# Altium integrated library Atmel Microcontroller ARM.IntLib: 148 symbols (part 11 of 11)
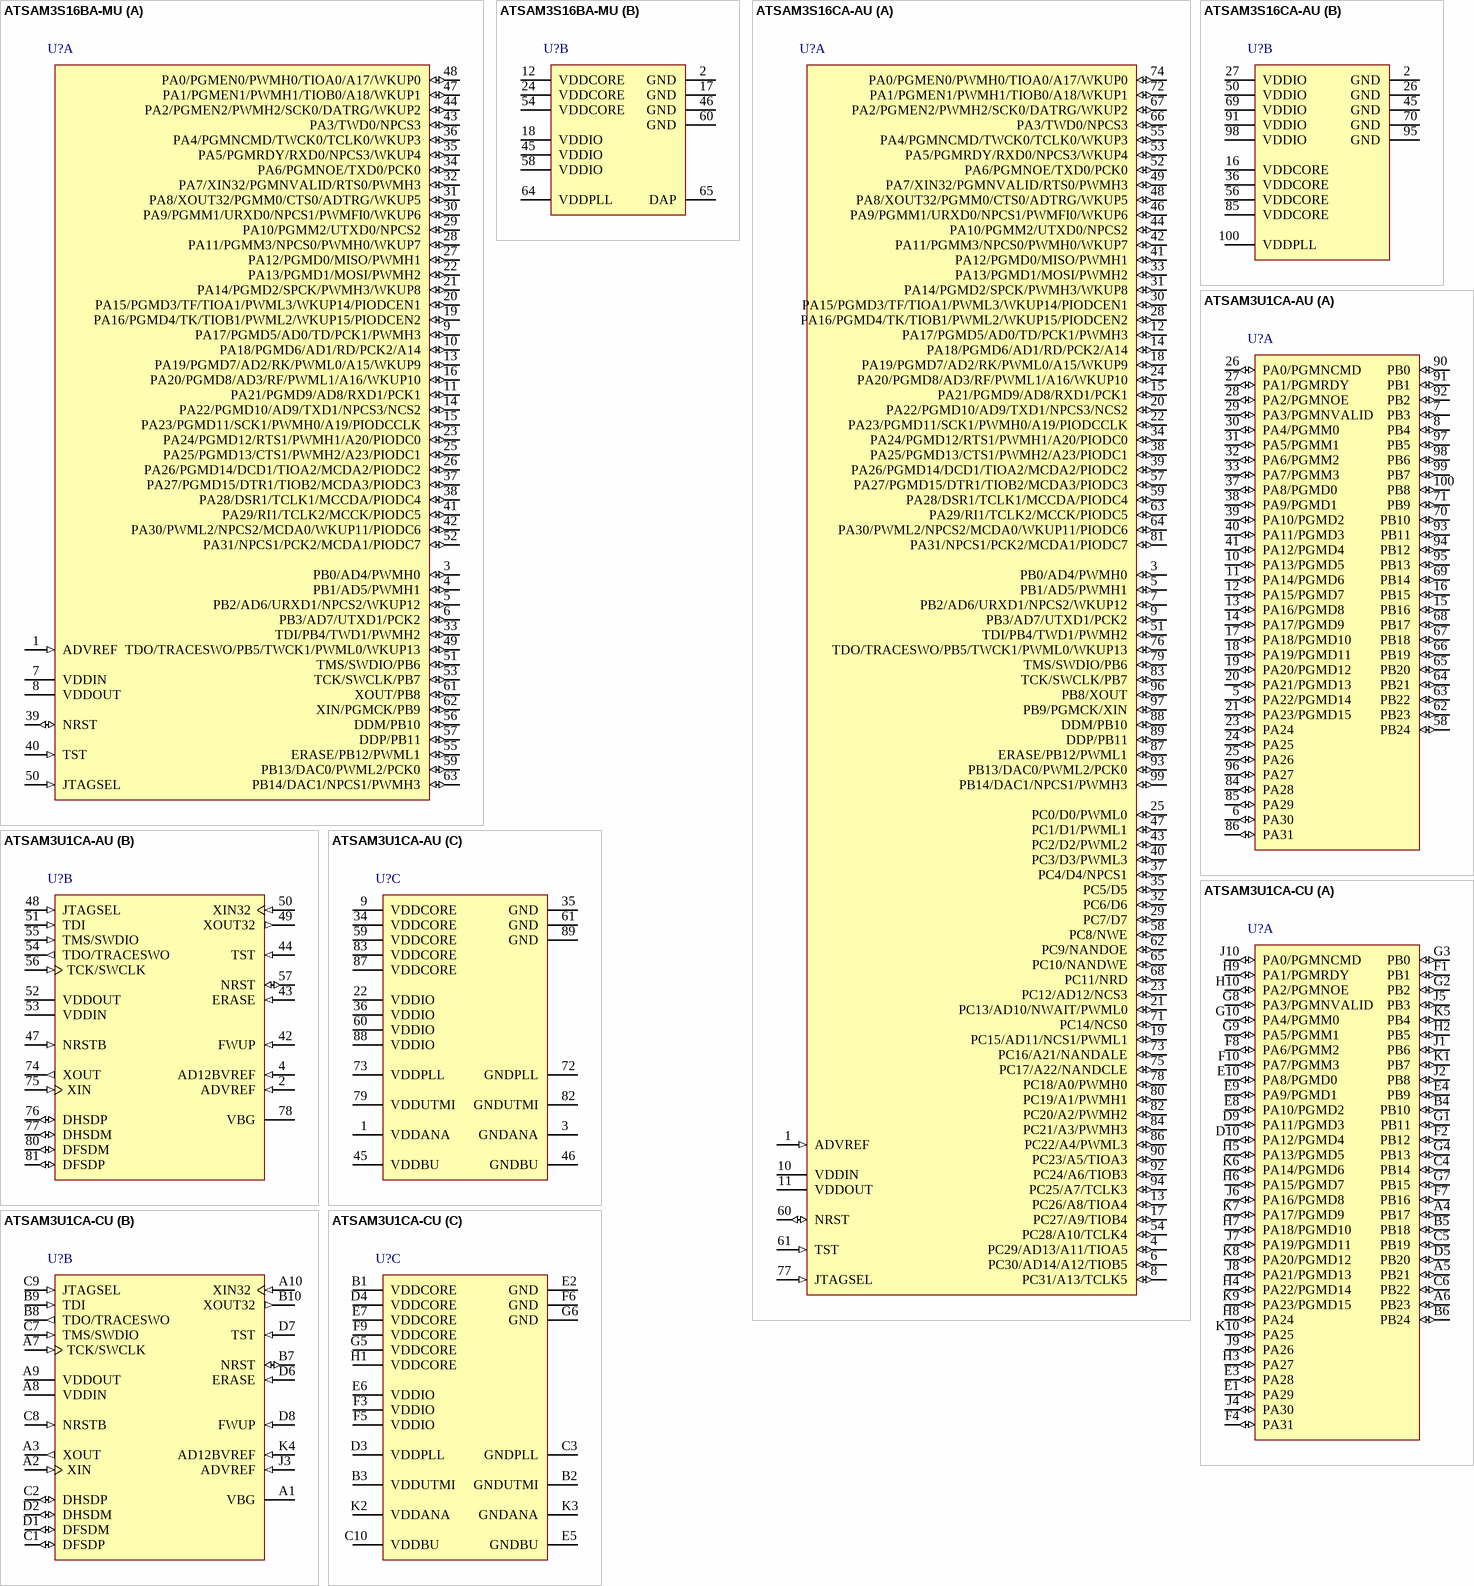
[diagram p71: symbols ATSAM3S16BA-MU to ATSAM3U1CA-CU]

## ATSAM3S16BA-MU
designator U?
AT91 ARM Cortex-M3 32-bit Microcontroller, 100MHz, 1.62-3.6V, 1MB Flash, 128KB SRAM, 47 User I/Os, 64-Pin QFN, Industrial Grade (-40°C to 85°C); DatasheetVersion: revB, Oct-2011; PackageVersion: revJ, Jul-2007; PackageReference: 64PS; PackageDescription: 64-Pin Quad Flat No-Lead (QFN) Sawn, 9 x 9 x 1.0 mm Body, 0.5 mm Pitch, Exposed Pad; Code_JEDEC: MO-220VMMD-3; ComponentLink1Description: Manufacturer URL; ComponentLink1URL: http://www.atmel.com/; ComponentLink2Description: SAM3S16 Datasheet; ComponentLink2URL: http://www.atmel.com/dyn/resources/prod_documents/doc11117.pdf
footprint 64PS_N (QFN, 64-Leads, Body 9x9mm, Pitch 0.5mm, Thermal Pad 7.5x7.5mm, IPC Medium Density)
footprint 64PS_L (QFN, 64-Leads, Body 9x9mm, Pitch 0.5mm, Thermal Pad 7.5x7.5mm, IPC High Density)
footprint 64PS_M (QFN, 64-Leads, Body 9x9mm, Pitch 0.5mm, Thermal Pad 7.5x7.5mm, IPC Low Density)
part A pins: 1 ADVREF (in), 3 PB0/AD4/PWMH0 (io), 4 PB1/AD5/PWMH1 (io), 5 PB2/AD6/URXD1/NPCS2/WKUP12 (io), 6 PB3/AD7/UTXD1/PCK2 (io), 7 VDDIN (power), 8 VDDOUT (power), 9 PA17/PGMD5/AD0/TD/PCK1/PWMH3 (io), 10 PA18/PGMD6/AD1/RD/PCK2/A14 (io), 11 PA21/PGMD9/AD8/RXD1/PCK1 (io), 13 PA19/PGMD7/AD2/RK/PWML0/A15/WKUP9 (io), 14 PA22/PGMD10/AD9/TXD1/NPCS3/NCS2 (io), 15 PA23/PGMD11/SCK1/PWMH0/A19/PIODCCLK (io), 16 PA20/PGMD8/AD3/RF/PWML1/A16/WKUP10 (io), 19 PA16/PGMD4/TK/TIOB1/PWML2/WKUP15/PIODCEN2 (io), 20 PA15/PGMD3/TF/TIOA1/PWML3/WKUP14/PIODCEN1 (io), 21 PA14/PGMD2/SPCK/PWMH3/WKUP8 (io), 22 PA13/PGMD1/MOSI/PWMH2 (io), 23 PA24/PGMD12/RTS1/PWMH1/A20/PIODC0 (io), 25 PA25/PGMD13/CTS1/PWMH2/A23/PIODC1 (io), 26 PA26/PGMD14/DCD1/TIOA2/MCDA2/PIODC2 (io), 27 PA12/PGMD0/MISO/PWMH1 (io), 28 PA11/PGMM3/NPCS0/PWMH0/WKUP7 (io), 29 PA10/PGMM2/UTXD0/NPCS2 (io), 30 PA9/PGMM1/URXD0/NPCS1/PWMFI0/WKUP6 (io), 31 PA8/XOUT32/PGMM0/CTS0/ADTRG/WKUP5 (io), 32 PA7/XIN32/PGMNVALID/RTS0/PWMH3 (io), 33 TDI/PB4/TWD1/PWMH2 (io), 34 PA6/PGMNOE/TXD0/PCK0 (io), 35 PA5/PGMRDY/RXD0/NPCS3/WKUP4 (io), 36 PA4/PGMNCMD/TWCK0/TCLK0/WKUP3 (io), 37 PA27/PGMD15/DTR1/TIOB2/MCDA3/PIODC3 (io), 38 PA28/DSR1/TCLK1/MCCDA/PIODC4 (io), 39 NRST (io), 40 TST (in), 41 PA29/RI1/TCLK2/MCCK/PIODC5 (io), 42 PA30/PWML2/NPCS2/MCDA0/WKUP11/PIODC6 (io), 43 PA3/TWD0/NPCS3 (io), 44 PA2/PGMEN2/PWMH2/SCK0/DATRG/WKUP2 (io), 47 PA1/PGMEN1/PWMH1/TIOB0/A18/WKUP1 (io), 48 PA0/PGMEN0/PWMH0/TIOA0/A17/WKUP0 (io), 49 TDO/TRACESWO/PB5/TWCK1/PWML0/WKUP13 (io), 50 JTAGSEL (in), 51 TMS/SWDIO/PB6 (io), 52 PA31/NPCS1/PCK2/MCDA1/PIODC7 (io), 53 TCK/SWCLK/PB7 (io), 55 ERASE/PB12/PWML1 (io), 56 DDM/PB10 (io), 57 DDP/PB11 (io), 59 PB13/DAC0/PWML2/PCK0 (io), 61 XOUT/PB8 (io), 62 XIN/PGMCK/PB9 (io), 63 PB14/DAC1/NPCS1/PWMH3 (io)
part B pins: 2 GND (power), 12 VDDCORE (power), 17 GND (power), 18 VDDIO (power), 24 VDDCORE (power), 45 VDDIO (power), 46 GND (power), 54 VDDCORE (power), 58 VDDIO (power), 60 GND (power), 64 VDDPLL (power), 65 DAP (power)

## ATSAM3S16CA-AU
designator U?
AT91 ARM Cortex-M3 32-bit Microcontroller, 100MHz, 1.62-3.6V, 1MB Flash, 128KB SRAM, 79 User I/Os, 100-Pin LQFP, Industrial Grade (-40°C to 85°C); DatasheetVersion: revB, Oct-2011; PackageVersion: Apr-2006; PackageReference: LQFP100; PackageDescription: 100-Pin Thin Quad Flat Pack 0.5 mm Pitch; Code_JEDEC: MS-026-BED; ComponentLink1Description: Manufacturer URL; ComponentLink1URL: http://www.atmel.com/; ComponentLink2Description: SAM3S16 Datasheet; ComponentLink2URL: http://www.atmel.com/dyn/resources/prod_documents/doc11117.pdf
footprint LQFP100_N (Thin QFP, 100-Leads, Body 14x14mm, Pitch 0.5mm, IPC Medium Density)
footprint LQFP100_L (Thin QFP, 100-Leads, Body 14x14mm, Pitch 0.5mm, IPC High Density)
footprint LQFP100_M (Thin QFP, 100-Leads, Body 14x14mm, Pitch 0.5mm, IPC Low Density)
part A pins: 1 ADVREF (in), 3 PB0/AD4/PWMH0 (io), 4 PC29/AD13/A11/TIOA5 (io), 5 PB1/AD5/PWMH1 (io), 6 PC30/AD14/A12/TIOB5 (io), 7 PB2/AD6/URXD1/NPCS2/WKUP12 (io), 8 PC31/A13/TCLK5 (io), 9 PB3/AD7/UTXD1/PCK2 (io), 10 VDDIN (power), 11 VDDOUT (power), 12 PA17/PGMD5/AD0/TD/PCK1/PWMH3 (io), 13 PC26/A8/TIOA4 (io), 14 PA18/PGMD6/AD1/RD/PCK2/A14 (io), 15 PA21/PGMD9/AD8/RXD1/PCK1 (io), 17 PC27/A9/TIOB4 (io), 18 PA19/PGMD7/AD2/RK/PWML0/A15/WKUP9 (io), 19 PC15/AD11/NCS1/PWML1 (io), 20 PA22/PGMD10/AD9/TXD1/NPCS3/NCS2 (io), 21 PC13/AD10/NWAIT/PWML0 (io), 22 PA23/PGMD11/SCK1/PWMH0/A19/PIODCCLK (io), 23 PC12/AD12/NCS3 (io), 24 PA20/PGMD8/AD3/RF/PWML1/A16/WKUP10 (io), 25 PC0/D0/PWML0 (io), 28 PA16/PGMD4/TK/TIOB1/PWML2/WKUP15/PIODCEN2 (io), 29 PC7/D7 (io), 30 PA15/PGMD3/TF/TIOA1/PWML3/WKUP14/PIODCEN1 (io), 31 PA14/PGMD2/SPCK/PWMH3/WKUP8 (io), 32 PC6/D6 (io), 33 PA13/PGMD1/MOSI/PWMH2 (io), 34 PA24/PGMD12/RTS1/PWMH1/A20/PIODC0 (io), 35 PC5/D5 (io), 37 PC4/D4/NPCS1 (io), 38 PA25/PGMD13/CTS1/PWMH2/A23/PIODC1 (io), 39 PA26/PGMD14/DCD1/TIOA2/MCDA2/PIODC2 (io), 40 PC3/D3/PWML3 (io), 41 PA12/PGMD0/MISO/PWMH1 (io), 42 PA11/PGMM3/NPCS0/PWMH0/WKUP7 (io), 43 PC2/D2/PWML2 (io), 44 PA10/PGMM2/UTXD0/NPCS2 (io), 46 PA9/PGMM1/URXD0/NPCS1/PWMFI0/WKUP6 (io), 47 PC1/D1/PWML1 (io), 48 PA8/XOUT32/PGMM0/CTS0/ADTRG/WKUP5 (io), 49 PA7/XIN32/PGMNVALID/RTS0/PWMH3 (io), 51 TDI/PB4/TWD1/PWMH2 (io), 52 PA6/PGMNOE/TXD0/PCK0 (io), 53 PA5/PGMRDY/RXD0/NPCS3/WKUP4 (io), 54 PC28/A10/TCLK4 (io), 55 PA4/PGMNCMD/TWCK0/TCLK0/WKUP3 (io), 57 PA27/PGMD15/DTR1/TIOB2/MCDA3/PIODC3 (io), 58 PC8/NWE (io), 59 PA28/DSR1/TCLK1/MCCDA/PIODC4 (io), 60 NRST (io), 61 TST (in), 62 PC9/NANDOE (io), 63 PA29/RI1/TCLK2/MCCK/PIODC5 (io), 64 PA30/PWML2/NPCS2/MCDA0/WKUP11/PIODC6 (io), 65 PC10/NANDWE (io), 66 PA3/TWD0/NPCS3 (io), 67 PA2/PGMEN2/PWMH2/SCK0/DATRG/WKUP2 (io), 68 PC11/NRD (io), 71 PC14/NCS0 (io), 72 PA1/PGMEN1/PWMH1/TIOB0/A18/WKUP1 (io), 73 PC16/A21/NANDALE (io), 74 PA0/PGMEN0/PWMH0/TIOA0/A17/WKUP0 (io), 75 PC17/A22/NANDCLE (io), 76 TDO/TRACESWO/PB5/TWCK1/PWML0/WKUP13 (io), 77 JTAGSEL (in), 78 PC18/A0/PWMH0 (io), 79 TMS/SWDIO/PB6 (io), 80 PC19/A1/PWMH1 (io), 81 PA31/NPCS1/PCK2/MCDA1/PIODC7 (io), 82 PC20/A2/PWMH2 (io), 83 TCK/SWCLK/PB7 (io), 84 PC21/A3/PWMH3 (io), 86 PC22/A4/PWML3 (io), 87 ERASE/PB12/PWML1 (io), 88 DDM/PB10 (io), 89 DDP/PB11 (io), 90 PC23/A5/TIOA3 (io), 92 PC24/A6/TIOB3 (io), 93 PB13/DAC0/PWML2/PCK0 (io), 94 PC25/A7/TCLK3 (io), 96 PB8/XOUT (io), 97 PB9/PGMCK/XIN (io), 99 PB14/DAC1/NPCS1/PWMH3 (io)
part B pins: 2 GND (power), 16 VDDCORE (power), 26 GND (power), 27 VDDIO (power), 36 VDDCORE (power), 45 GND (power), 50 VDDIO (power), 56 VDDCORE (power), 69 VDDIO (power), 70 GND (power), 85 VDDCORE (power), 91 VDDIO (power), 95 GND (power), 98 VDDIO (power), 100 VDDPLL (power)

## ATSAM3U1CA-AU
designator U?
AT91 ARM Cortex-M3 32-bit Microcontroller, 64KB Flash, 20KB SRAM, 57 User I/Os, 3USARTs, 100-Pin LQFP, Industrial Grade (-40°C to 85°C), Pb-Free; DatasheetVersion: revC, Apr-2010; PackageVersion: Apr-2006; PackageReference: LQFP100; PackageDescription: 100-Pin Thin Quad Flat Pack 0.5 mm Pitch; Code_JEDEC: MS-026-BED; ComponentLink1Description: Manufacturer URL; ComponentLink1URL: http://www.atmel.com/; ComponentLink2Description: SAM3U Series Datasheet; ComponentLink2URL: http://www.atmel.com/dyn/resources/prod_documents/doc6430.pdf; ComponentLink3Description: SAM3U Series Summary; ComponentLink3URL: http://www.atmel.com/dyn/resources/prod_documents/6430s.pdf
footprint LQFP100_N (Thin QFP, 100-Leads, Body 14x14mm, Pitch 0.5mm, IPC Medium Density)
footprint LQFP100_L (Thin QFP, 100-Leads, Body 14x14mm, Pitch 0.5mm, IPC High Density)
footprint LQFP100_M (Thin QFP, 100-Leads, Body 14x14mm, Pitch 0.5mm, IPC Low Density)
part A pins: 5 PA22/PGMD14 (io), 6 PA30 (io), 7 PB3 (io), 8 PB4 (io), 10 PA13/PGMD5 (io), 11 PA14/PGMD6 (io), 12 PA15/PGMD7 (io), 13 PA16/PGMD8 (io), 14 PA17/PGMD9 (io), 15 PB16 (io), 16 PB15 (io), 17 PA18/PGMD10 (io), 18 PA19/PGMD11 (io), 19 PA20/PGMD12 (io), 20 PA21/PGMD13 (io), 21 PA23/PGMD15 (io), 23 PA24 (io), 24 PA25 (io), 25 PA26 (io), 26 PA0/PGMNCMD (io), 27 PA1/PGMRDY (io), 28 PA2/PGMNOE (io), 29 PA3/PGMNVALID (io), 30 PA4/PGMM0 (io), 31 PA5/PGMM1 (io), 32 PA6/PGMM2 (io), 33 PA7/PGMM3 (io), 37 PA8/PGMD0 (io), 38 PA9/PGMD1 (io), 39 PA10/PGMD2 (io), 40 PA11/PGMD3 (io), 41 PA12/PGMD4 (io), 58 PB24 (io), 62 PB23 (io), 63 PB22 (io), 64 PB21 (io), 65 PB20 (io), 66 PB19 (io), 67 PB18 (io), 68 PB17 (io), 69 PB14 (io), 70 PB10 (io), 71 PB9 (io), 84 PA28 (io), 85 PA29 (io), 86 PA31 (io), 90 PB0 (io), 91 PB1 (io), 92 PB2 (io), 93 PB11 (io), 94 PB12 (io), 95 PB13 (io), 96 PA27 (io), 97 PB5 (io), 98 PB6 (io), 99 PB7 (io), 100 PB8 (io)
part B pins: 2 ADVREF (in), 4 AD12BVREF (in), 42 FWUP (in), 43 ERASE (in), 44 TST (in), 47 NRSTB (in), 48 JTAGSEL (in), 49 XOUT32 (out), 50 XIN32 (in), 51 TDI (in), 52 VDDOUT (power), 53 VDDIN (power), 54 TDO/TRACESWO (out), 55 TMS/SWDIO (in), 56 TCK/SWCLK (in), 57 NRST (io), 74 XOUT (out), 75 XIN (in), 76 DHSDP (io), 77 DHSDM (io), 78 VBG, 80 DFSDM (io), 81 DFSDP (io)
part C pins: 1 VDDANA (power), 3 GNDANA (power), 9 VDDCORE (power), 22 VDDIO (power), 34 VDDCORE (power), 35 GND (power), 36 VDDIO (power), 45 VDDBU (power), 46 GNDBU (power), 59 VDDCORE (power), 60 VDDIO (power), 61 GND (power), 72 GNDPLL (power), 73 VDDPLL (power), 79 VDDUTMI (power), 82 GNDUTMI (power), 83 VDDCORE (power), 87 VDDCORE (power), 88 VDDIO (power), 89 GND (power)

## ATSAM3U1CA-CU
designator U?
AT91 ARM Cortex-M3 32-bit Microcontroller, 64KB Flash, 20KB SRAM, 57 User I/Os, 3USARTs, 100-Pin TFBGA, Industrial Grade (-40°C to 85°C), Pb-Free; DatasheetVersion: revC, Apr-2010; PackageVersion: 2004; PackageReference: TFBGA100; PackageDescription: 100-Ball Thin Fine Ball Grid Array, 9 x 9 x1.1 mm Body, 0.80 mm Pitch; ComponentLink1Description: Manufacturer URL; ComponentLink1URL: http://www.atmel.com/; ComponentLink2Description: SAM3U Series Datasheet; ComponentLink2URL: http://www.atmel.com/dyn/resources/prod_documents/doc6430.pdf; ComponentLink3Description: SAM3U Series Summary; ComponentLink3URL: http://www.atmel.com/dyn/resources/prod_documents/6430s.pdf
footprint TFBGA100 (BGA, 100-Leads, Body 9x9mm, Pitch 0.8mm)
part A pins: A4 PB17 (io), A5 PB21 (io), A6 PB23 (io), B4 PB10 (io), B5 PB18 (io), B6 PB24 (io), C4 PB14 (io), C5 PB19 (io), C6 PB22 (io), D5 PB20 (io), D9 PA11/PGMD3 (io), D10 PA12/PGMD4 (io), E1 PA29 (io), E3 PA28 (io), E4 PB9 (io), E8 PA10/PGMD2 (io), E9 PA9/PGMD1 (io), E10 PA8/PGMD0 (io), F1 PB1 (io), F2 PB12 (io), F4 PA31 (io), F7 PB16 (io), F8 PA6/PGMM2 (io), F10 PA7/PGMM3 (io), G1 PB11 (io), G2 PB2 (io), G3 PB0 (io), G4 PB13 (io), G7 PB15 (io), G8 PA3/PGMNVALID (io), G9 PA5/PGMM1 (io), G10 PA4/PGMM0 (io), H2 PB5 (io), H3 PA27 (io), H4 PA22/PGMD14 (io), H5 PA13/PGMD5 (io), H6 PA15/PGMD7 (io), H7 PA18/PGMD10 (io), H8 PA24 (io), H9 PA1/PGMRDY (io), H10 PA2/PGMNOE (io), J1 PB6 (io), J2 PB8 (io), J4 PA30 (io), J5 PB3 (io), J6 PA16/PGMD8 (io), J7 PA19/PGMD11 (io), J8 PA21/PGMD13 (io), J9 PA26 (io), J10 PA0/PGMNCMD (io), K1 PB7 (io), K5 PB4 (io), K6 PA14/PGMD6 (io), K7 PA17/PGMD9 (io), K8 PA20/PGMD12 (io), K9 PA23/PGMD15 (io), K10 PA25 (io)
part B pins: A1 VBG, A2 XIN (in), A3 XOUT (out), A7 TCK/SWCLK (in), A8 VDDIN (power), A9 VDDOUT (power), A10 XIN32 (in), B7 NRST (io), B8 TDO/TRACESWO (out), B9 TDI (in), B10 XOUT32 (out), C1 DFSDP (io), C2 DHSDP (io), C7 TMS/SWDIO (in), C8 NRSTB (in), C9 JTAGSEL (in), D1 DFSDM (io), D2 DHSDM (io), D6 ERASE (in), D7 TST (in), D8 FWUP (in), J3 ADVREF (in), K4 AD12BVREF (in)
part C pins: B1 VDDCORE (power), B2 GNDUTMI (power), B3 VDDUTMI (power), C3 GNDPLL (power), C10 VDDBU (power), D3 VDDPLL (power), D4 VDDCORE (power), E2 GND (power), E5 GNDBU (power), E6 VDDIO (power), E7 VDDCORE (power), F3 VDDIO (power), F5 VDDIO (power), F6 GND (power), F9 VDDCORE (power), G5 VDDCORE (power), G6 GND (power), H1 VDDCORE (power), K2 VDDANA (power), K3 GNDANA (power)

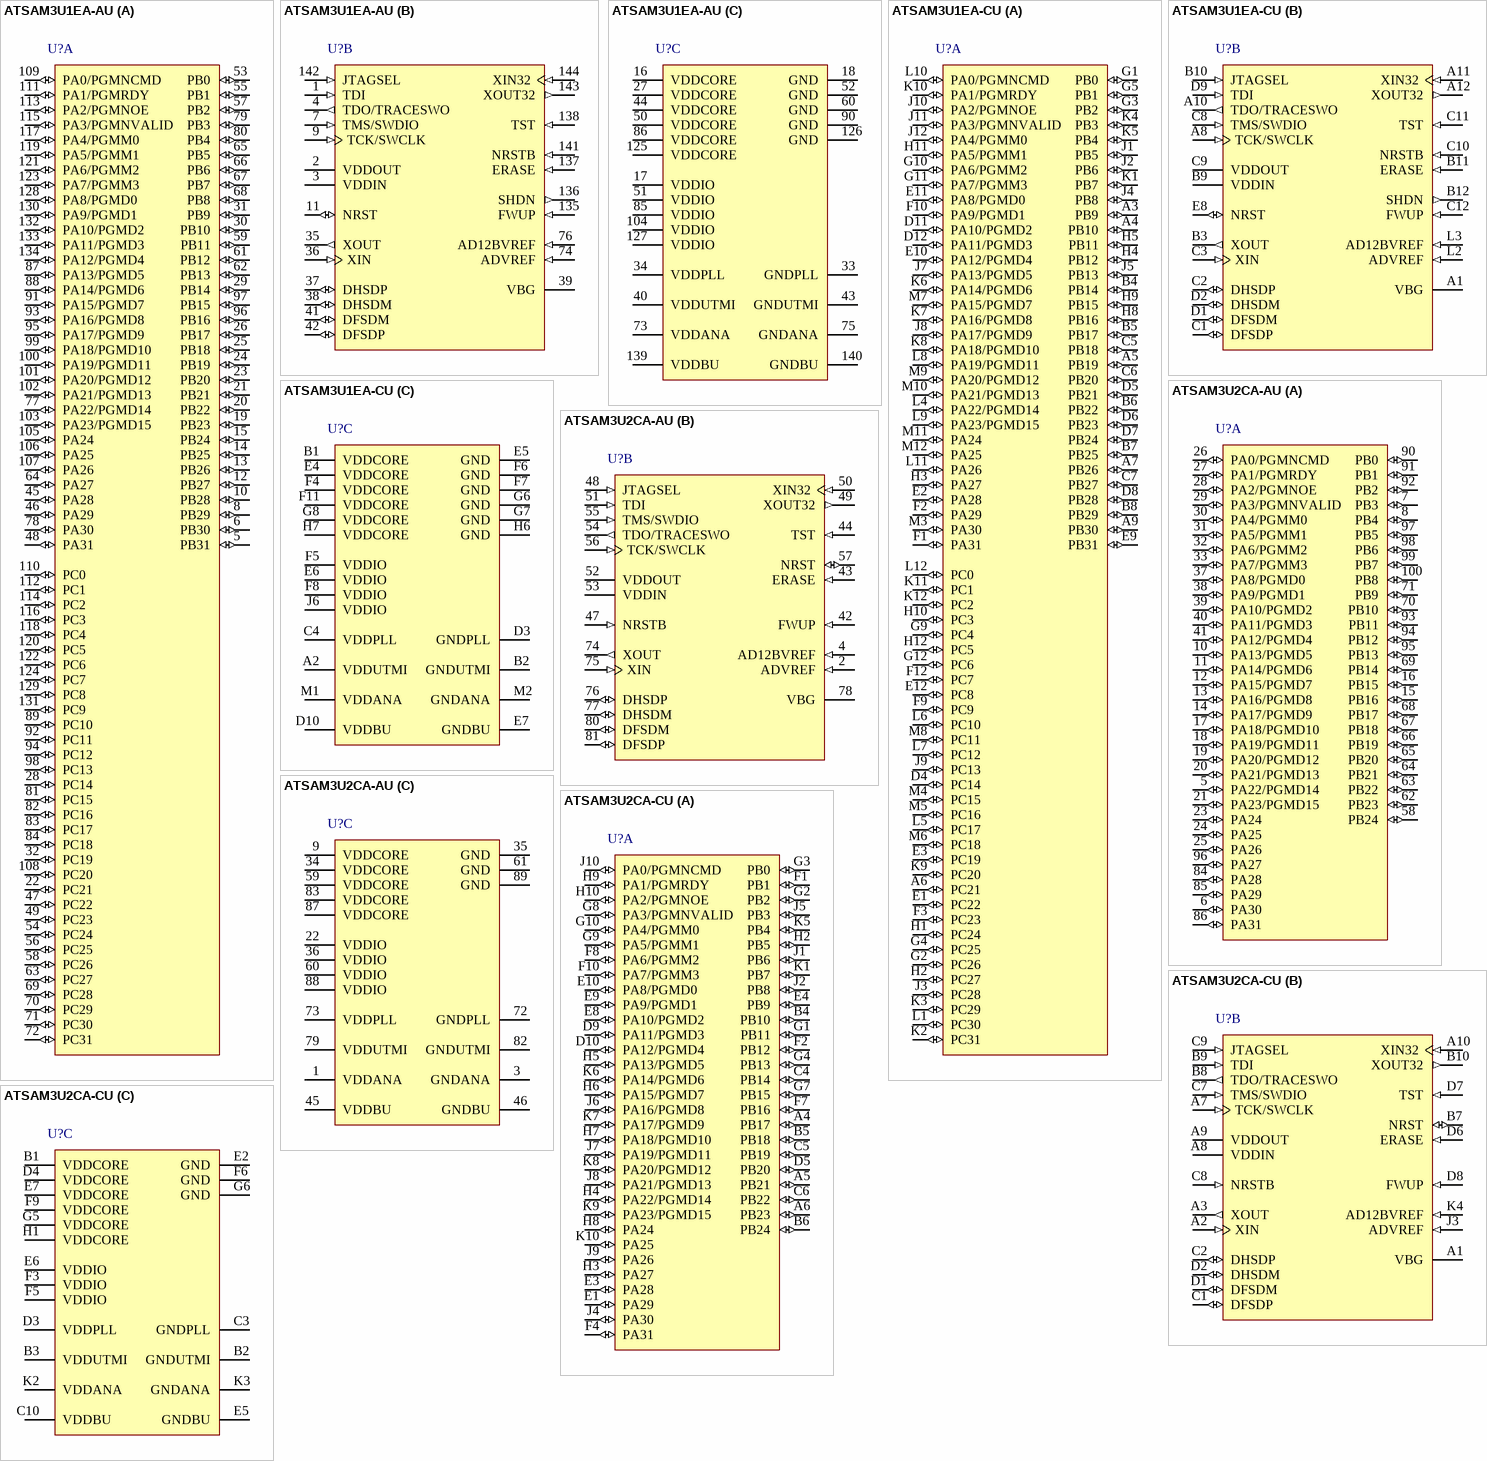
[diagram p59: symbols ATSAM3U1EA-AU to ATSAM3U2CA-CU]

## ATSAM3U1EA-AU
designator U?
AT91 ARM Cortex-M3 32-bit Microcontroller, 64KB Flash, 20KB SRAM, 96 User I/Os, 4USARTs, 144-Pin LQFP, Industrial Grade (-40°C to 85°C), Pb-Free; DatasheetVersion: revC, Apr-2010; PackageVersion: rev.A, Nov-2001; PackageReference: 144L1; PackageDescription: 144-Pin Thin Quad Flat Pack 0.5 mm Pitch; Code_JEDEC: MS-026-BFB; ComponentLink1Description: Manufacturer URL; ComponentLink1URL: http://www.atmel.com/; ComponentLink2Description: SAM3U Series Datasheet; ComponentLink2URL: http://www.atmel.com/dyn/resources/prod_documents/doc6430.pdf; ComponentLink3Description: SAM3U Series Summary; ComponentLink3URL: http://www.atmel.com/dyn/resources/prod_documents/6430s.pdf
footprint 144L1_N (Thin QFP, 144-Leads, Body 20x20mm, Pitch 0.5mm, IPC Medium Density)
footprint 144L1_L (Thin QFP, 144-Leads, Body 20x20mm, Pitch 0.5mm, IPC High Density)
footprint 144L1_M (Thin QFP, 144-Leads, Body 20x20mm, Pitch 0.5mm, IPC Low Density)
part A pins: 5 PB31 (io), 6 PB30 (io), 8 PB29 (io), 10 PB28 (io), 12 PB27 (io), 13 PB26 (io), 14 PB25 (io), 15 PB24 (io), 19 PB23 (io), 20 PB22 (io), 21 PB21 (io), 22 PC21 (io), 23 PB20 (io), 24 PB19 (io), 25 PB18 (io), 26 PB17 (io), 28 PC14 (io), 29 PB14 (io), 30 PB10 (io), 31 PB9 (io), 32 PC19 (io), 45 PA28 (io), 46 PA29 (io), 47 PC22 (io), 48 PA31 (io), 49 PC23 (io), 53 PB0 (io), 54 PC24 (io), 55 PB1 (io), 56 PC25 (io), 57 PB2 (io), 58 PC26 (io), 59 PB11 (io), 61 PB12 (io), 62 PB13 (io), 63 PC27 (io), 64 PA27 (io), 65 PB5 (io), 66 PB6 (io), 67 PB7 (io), 68 PB8 (io), 69 PC28 (io), 70 PC29 (io), 71 PC30 (io), 72 PC31 (io), 77 PA22/PGMD14 (io), 78 PA30 (io), 79 PB3 (io), 80 PB4 (io), 81 PC15 (io), 82 PC16 (io), 83 PC17 (io), 84 PC18 (io), 87 PA13/PGMD5 (io), 88 PA14/PGMD6 (io), 89 PC10 (io), 91 PA15/PGMD7 (io), 92 PC11 (io), 93 PA16/PGMD8 (io), 94 PC12 (io), 95 PA17/PGMD9 (io), 96 PB16 (io), 97 PB15 (io), 98 PC13 (io), 99 PA18/PGMD10 (io), 100 PA19/PGMD11 (io), 101 PA20/PGMD12 (io), 102 PA21/PGMD13 (io), 103 PA23/PGMD15 (io), 105 PA24 (io), 106 PA25 (io), 107 PA26 (io), 108 PC20 (io), 109 PA0/PGMNCMD (io), 110 PC0 (io), 111 PA1/PGMRDY (io), 112 PC1 (io), 113 PA2/PGMNOE (io), 114 PC2 (io), 115 PA3/PGMNVALID (io), 116 PC3 (io), 117 PA4/PGMM0 (io), 118 PC4 (io), 119 PA5/PGMM1 (io), 120 PC5 (io), 121 PA6/PGMM2 (io), 122 PC6 (io), 123 PA7/PGMM3 (io), 124 PC7 (io), 128 PA8/PGMD0 (io), 129 PC8 (io), 130 PA9/PGMD1 (io), 131 PC9 (io), 132 PA10/PGMD2 (io), 133 PA11/PGMD3 (io), 134 PA12/PGMD4 (io)
part B pins: 1 TDI (in), 2 VDDOUT (power), 3 VDDIN (power), 4 TDO/TRACESWO (out), 7 TMS/SWDIO (in), 9 TCK/SWCLK (in), 11 NRST (io), 35 XOUT (out), 36 XIN (in), 37 DHSDP (io), 38 DHSDM (io), 39 VBG, 41 DFSDM (io), 42 DFSDP (io), 74 ADVREF (in), 76 AD12BVREF (in), 135 FWUP (in), 136 SHDN (out), 137 ERASE (in), 138 TST (in), 141 NRSTB (in), 142 JTAGSEL (in), 143 XOUT32 (out), 144 XIN32 (in)
part C pins: 16 VDDCORE (power), 17 VDDIO (power), 18 GND (power), 27 VDDCORE (power), 33 GNDPLL (power), 34 VDDPLL (power), 40 VDDUTMI (power), 43 GNDUTMI (power), 44 VDDCORE (power), 50 VDDCORE (power), 51 VDDIO (power), 52 GND (power), 60 GND (power), 73 VDDANA (power), 75 GNDANA (power), 85 VDDIO (power), 86 VDDCORE (power), 90 GND (power), 104 VDDIO (power), 125 VDDCORE (power), 126 GND (power), 127 VDDIO (power), 139 VDDBU (power), 140 GNDBU (power)

## ATSAM3U1EA-CU
designator U?
AT91 ARM Cortex-M3 32-bit Microcontroller, 64KB Flash, 20KB SRAM, 96 User I/Os, 4USARTs, 144-Pin LFBGA, Industrial Grade (-40°C to 85°C), Pb-Free; DatasheetVersion: revC, Apr-2010; PackageVersion: 2008; PackageReference: LFBGA144; PackageDescription: 144-Ball Low Profile Fine Pitch BGA, 10 x 10 x 1.4 mm Body, 0.8 mm Pitch; Code_JEDEC: MS-026; ComponentLink1Description: Manufacturer URL; ComponentLink1URL: http://www.atmel.com/; ComponentLink2Description: SAM3U Series Datasheet; ComponentLink2URL: http://www.atmel.com/dyn/resources/prod_documents/doc6430.pdf; ComponentLink3Description: SAM3U Series Summary; ComponentLink3URL: http://www.atmel.com/dyn/resources/prod_documents/6430s.pdf
footprint LFBGA144 (BGA, 144-Leads, Body 10x10mm, Pitch 0.8mm)
part A pins: A3 PB9 (io), A4 PB10 (io), A5 PB19 (io), A6 PC21 (io), A7 PB26 (io), A9 PB30 (io), B4 PB14 (io), B5 PB17 (io), B6 PB22 (io), B7 PB25 (io), B8 PB29 (io), C5 PB18 (io), C6 PB20 (io), C7 PB27 (io), D4 PC14 (io), D5 PB21 (io), D6 PB23 (io), D7 PB24 (io), D8 PB28 (io), D11 PA10/PGMD2 (io), D12 PA11/PGMD3 (io), E1 PC22 (io), E2 PA28 (io), E3 PC19 (io), E9 PB31 (io), E10 PA12/PGMD4 (io), E11 PA8/PGMD0 (io), E12 PC8 (io), F1 PA31 (io), F2 PA29 (io), F3 PC23 (io), F9 PC9 (io), F10 PA9/PGMD1 (io), F12 PC7 (io), G1 PB0 (io), G2 PC26 (io), G3 PB2 (io), G4 PC25 (io), G5 PB1 (io), G9 PC4 (io), G10 PA6/PGMM2 (io), G11 PA7/PGMM3 (io), G12 PC6 (io), H1 PC24 (io), H2 PC27 (io), H3 PA27 (io), H4 PB12 (io), H5 PB11 (io), H8 PB16 (io), H9 PB15 (io), H10 PC3 (io), H11 PA5/PGMM1 (io), H12 PC5 (io), J1 PB5 (io), J2 PB6 (io), J3 PC28 (io), J4 PB8 (io), J5 PB13 (io), J7 PA13/PGMD5 (io), J8 PA17/PGMD9 (io), J9 PC13 (io), J10 PA2/PGMNOE (io), J11 PA3/PGMNVALID (io), J12 PA4/PGMM0 (io), K1 PB7 (io), K2 PC31 (io), K3 PC29 (io), K4 PB3 (io), K5 PB4 (io), K6 PA14/PGMD6 (io), K7 PA16/PGMD8 (io), K8 PA18/PGMD10 (io), K9 PC20 (io), K10 PA1/PGMRDY (io), K11 PC1 (io), K12 PC2 (io), L1 PC30 (io), L4 PA22/PGMD14 (io), L5 PC17 (io), L6 PC10 (io), L7 PC12 (io), L8 PA19/PGMD11 (io), L9 PA23/PGMD15 (io), L10 PA0/PGMNCMD (io), L11 PA26 (io), L12 PC0 (io), M3 PA30 (io), M4 PC15 (io), M5 PC16 (io), M6 PC18 (io), M7 PA15/PGMD7 (io), M8 PC11 (io), M9 PA20/PGMD12 (io), M10 PA21/PGMD13 (io), M11 PA24 (io), M12 PA25 (io)
part B pins: A1 VBG, A8 TCK/SWCLK (in), A10 TDO/TRACESWO (out), A11 XIN32 (in), A12 XOUT32 (out), B3 XOUT (out), B9 VDDIN (power), B10 JTAGSEL (in), B11 ERASE (in), B12 SHDN (out), C1 DFSDP (io), C2 DHSDP (io), C3 XIN (in), C8 TMS/SWDIO (in), C9 VDDOUT (power), C10 NRSTB (in), C11 TST (in), C12 FWUP (in), D1 DFSDM (io), D2 DHSDM (io), D9 TDI (in), E8 NRST (io), L2 ADVREF (in), L3 AD12BVREF (in)
part C pins: A2 VDDUTMI (power), B1 VDDCORE (power), B2 GNDUTMI (power), C4 VDDPLL (power), D3 GNDPLL (power), D10 VDDBU (power), E4 VDDCORE (power), E5 GND (power), E6 VDDIO (power), E7 GNDBU (power), F4 VDDCORE (power), F5 VDDIO (power), F6 GND (power), F7 GND (power), F8 VDDIO (power), F11 VDDCORE (power), G6 GND (power), G7 GND (power), G8 VDDCORE (power), H6 GND (power), H7 VDDCORE (power), J6 VDDIO (power), M1 VDDANA (power), M2 GNDANA (power)

## ATSAM3U2CA-AU
designator U?
AT91 ARM Cortex-M3 32-bit Microcontroller, 128KB Flash, 36KB SRAM, 57 User I/Os, 3USARTs, 100-Pin LQFP, Industrial Grade (-40°C to 85°C), Pb-Free; DatasheetVersion: revC, Apr-2010; PackageVersion: Apr-2006; PackageReference: LQFP100; PackageDescription: 100-Pin Thin Quad Flat Pack 0.5 mm Pitch; Code_JEDEC: MS-026-BED; ComponentLink1Description: Manufacturer URL; ComponentLink1URL: http://www.atmel.com/; ComponentLink2Description: SAM3U Series Datasheet; ComponentLink2URL: http://www.atmel.com/dyn/resources/prod_documents/doc6430.pdf; ComponentLink3Description: SAM3U Series Summary; ComponentLink3URL: http://www.atmel.com/dyn/resources/prod_documents/6430s.pdf
footprint LQFP100_N (Thin QFP, 100-Leads, Body 14x14mm, Pitch 0.5mm, IPC Medium Density)
footprint LQFP100_L (Thin QFP, 100-Leads, Body 14x14mm, Pitch 0.5mm, IPC High Density)
footprint LQFP100_M (Thin QFP, 100-Leads, Body 14x14mm, Pitch 0.5mm, IPC Low Density)
part A pins: 5 PA22/PGMD14 (io), 6 PA30 (io), 7 PB3 (io), 8 PB4 (io), 10 PA13/PGMD5 (io), 11 PA14/PGMD6 (io), 12 PA15/PGMD7 (io), 13 PA16/PGMD8 (io), 14 PA17/PGMD9 (io), 15 PB16 (io), 16 PB15 (io), 17 PA18/PGMD10 (io), 18 PA19/PGMD11 (io), 19 PA20/PGMD12 (io), 20 PA21/PGMD13 (io), 21 PA23/PGMD15 (io), 23 PA24 (io), 24 PA25 (io), 25 PA26 (io), 26 PA0/PGMNCMD (io), 27 PA1/PGMRDY (io), 28 PA2/PGMNOE (io), 29 PA3/PGMNVALID (io), 30 PA4/PGMM0 (io), 31 PA5/PGMM1 (io), 32 PA6/PGMM2 (io), 33 PA7/PGMM3 (io), 37 PA8/PGMD0 (io), 38 PA9/PGMD1 (io), 39 PA10/PGMD2 (io), 40 PA11/PGMD3 (io), 41 PA12/PGMD4 (io), 58 PB24 (io), 62 PB23 (io), 63 PB22 (io), 64 PB21 (io), 65 PB20 (io), 66 PB19 (io), 67 PB18 (io), 68 PB17 (io), 69 PB14 (io), 70 PB10 (io), 71 PB9 (io), 84 PA28 (io), 85 PA29 (io), 86 PA31 (io), 90 PB0 (io), 91 PB1 (io), 92 PB2 (io), 93 PB11 (io), 94 PB12 (io), 95 PB13 (io), 96 PA27 (io), 97 PB5 (io), 98 PB6 (io), 99 PB7 (io), 100 PB8 (io)
part B pins: 2 ADVREF (in), 4 AD12BVREF (in), 42 FWUP (in), 43 ERASE (in), 44 TST (in), 47 NRSTB (in), 48 JTAGSEL (in), 49 XOUT32 (out), 50 XIN32 (in), 51 TDI (in), 52 VDDOUT (power), 53 VDDIN (power), 54 TDO/TRACESWO (out), 55 TMS/SWDIO (in), 56 TCK/SWCLK (in), 57 NRST (io), 74 XOUT (out), 75 XIN (in), 76 DHSDP (io), 77 DHSDM (io), 78 VBG, 80 DFSDM (io), 81 DFSDP (io)
part C pins: 1 VDDANA (power), 3 GNDANA (power), 9 VDDCORE (power), 22 VDDIO (power), 34 VDDCORE (power), 35 GND (power), 36 VDDIO (power), 45 VDDBU (power), 46 GNDBU (power), 59 VDDCORE (power), 60 VDDIO (power), 61 GND (power), 72 GNDPLL (power), 73 VDDPLL (power), 79 VDDUTMI (power), 82 GNDUTMI (power), 83 VDDCORE (power), 87 VDDCORE (power), 88 VDDIO (power), 89 GND (power)

## ATSAM3U2CA-CU
designator U?
AT91 ARM Cortex-M3 32-bit Microcontroller, 128KB Flash, 36KB SRAM, 57 User I/Os, 3USARTs, 100-Pin TFBGA, Industrial Grade (-40°C to 85°C), Pb-Free; DatasheetVersion: revC, Apr-2010; PackageVersion: 2004; PackageReference: TFBGA100; PackageDescription: 100-Ball Thin Fine Ball Grid Array, 9 x 9 x1.1 mm Body, 0.80 mm Pitch; ComponentLink1Description: Manufacturer URL; ComponentLink1URL: http://www.atmel.com/; ComponentLink2Description: SAM3U Series Datasheet; ComponentLink2URL: http://www.atmel.com/dyn/resources/prod_documents/doc6430.pdf; ComponentLink3Description: SAM3U Series Summary; ComponentLink3URL: http://www.atmel.com/dyn/resources/prod_documents/6430s.pdf
footprint TFBGA100 (BGA, 100-Leads, Body 9x9mm, Pitch 0.8mm)
part A pins: A4 PB17 (io), A5 PB21 (io), A6 PB23 (io), B4 PB10 (io), B5 PB18 (io), B6 PB24 (io), C4 PB14 (io), C5 PB19 (io), C6 PB22 (io), D5 PB20 (io), D9 PA11/PGMD3 (io), D10 PA12/PGMD4 (io), E1 PA29 (io), E3 PA28 (io), E4 PB9 (io), E8 PA10/PGMD2 (io), E9 PA9/PGMD1 (io), E10 PA8/PGMD0 (io), F1 PB1 (io), F2 PB12 (io), F4 PA31 (io), F7 PB16 (io), F8 PA6/PGMM2 (io), F10 PA7/PGMM3 (io), G1 PB11 (io), G2 PB2 (io), G3 PB0 (io), G4 PB13 (io), G7 PB15 (io), G8 PA3/PGMNVALID (io), G9 PA5/PGMM1 (io), G10 PA4/PGMM0 (io), H2 PB5 (io), H3 PA27 (io), H4 PA22/PGMD14 (io), H5 PA13/PGMD5 (io), H6 PA15/PGMD7 (io), H7 PA18/PGMD10 (io), H8 PA24 (io), H9 PA1/PGMRDY (io), H10 PA2/PGMNOE (io), J1 PB6 (io), J2 PB8 (io), J4 PA30 (io), J5 PB3 (io), J6 PA16/PGMD8 (io), J7 PA19/PGMD11 (io), J8 PA21/PGMD13 (io), J9 PA26 (io), J10 PA0/PGMNCMD (io), K1 PB7 (io), K5 PB4 (io), K6 PA14/PGMD6 (io), K7 PA17/PGMD9 (io), K8 PA20/PGMD12 (io), K9 PA23/PGMD15 (io), K10 PA25 (io)
part B pins: A1 VBG, A2 XIN (in), A3 XOUT (out), A7 TCK/SWCLK (in), A8 VDDIN (power), A9 VDDOUT (power), A10 XIN32 (in), B7 NRST (io), B8 TDO/TRACESWO (out), B9 TDI (in), B10 XOUT32 (out), C1 DFSDP (io), C2 DHSDP (io), C7 TMS/SWDIO (in), C8 NRSTB (in), C9 JTAGSEL (in), D1 DFSDM (io), D2 DHSDM (io), D6 ERASE (in), D7 TST (in), D8 FWUP (in), J3 ADVREF (in), K4 AD12BVREF (in)
part C pins: B1 VDDCORE (power), B2 GNDUTMI (power), B3 VDDUTMI (power), C3 GNDPLL (power), C10 VDDBU (power), D3 VDDPLL (power), D4 VDDCORE (power), E2 GND (power), E5 GNDBU (power), E6 VDDIO (power), E7 VDDCORE (power), F3 VDDIO (power), F5 VDDIO (power), F6 GND (power), F9 VDDCORE (power), G5 VDDCORE (power), G6 GND (power), H1 VDDCORE (power), K2 VDDANA (power), K3 GNDANA (power)

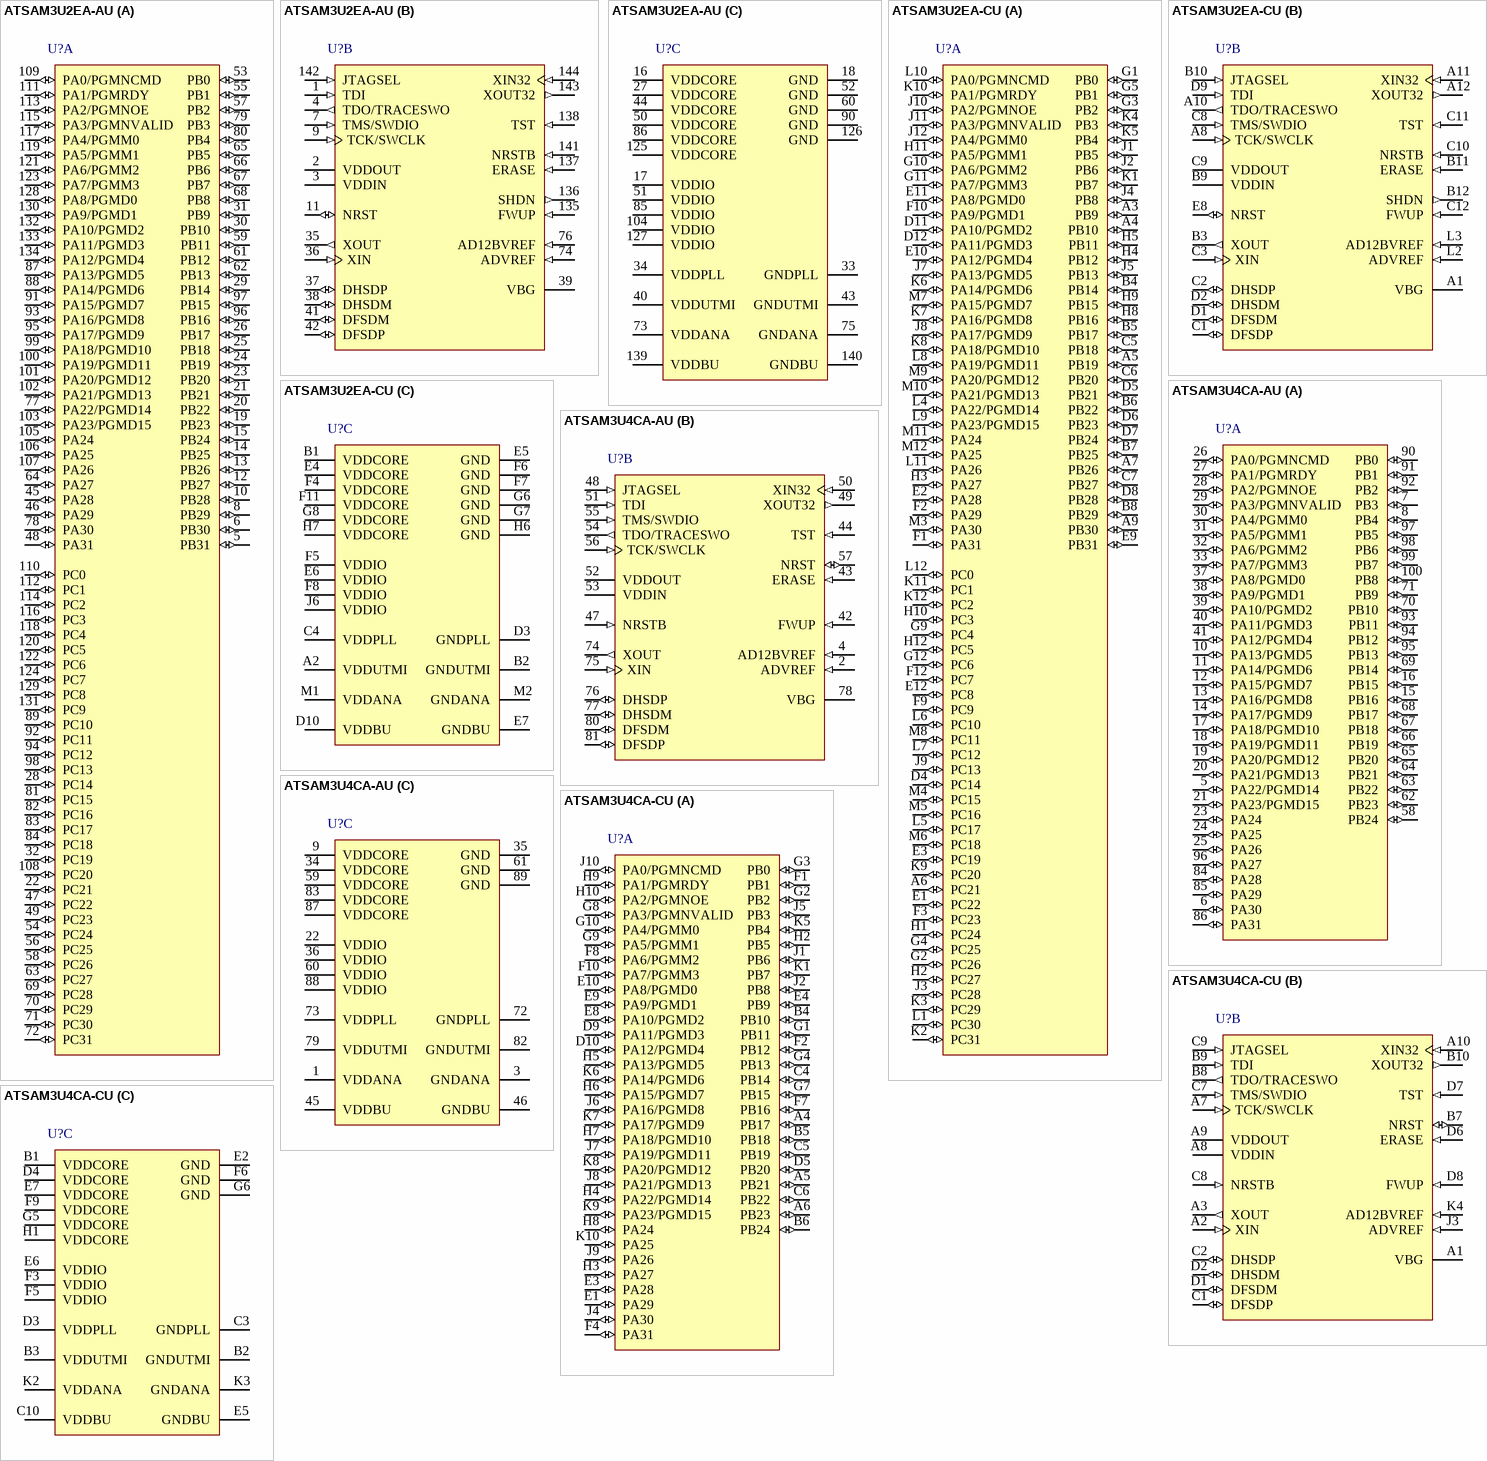
[diagram p60: symbols ATSAM3U2EA-AU to ATSAM3U4CA-CU]

## ATSAM3U2EA-AU
designator U?
AT91 ARM Cortex-M3 32-bit Microcontroller, 128KB Flash, 36KB SRAM, 96 User I/Os, 4USARTs, 144-Pin LQFP, Industrial Grade (-40°C to 85°C), Pb-Free; DatasheetVersion: revC, Apr-2010; PackageVersion: rev.A, Nov-2001; PackageReference: 144L1; PackageDescription: 144-Pin Thin Quad Flat Pack 0.5 mm Pitch; Code_JEDEC: MS-026-BFB; ComponentLink1Description: Manufacturer URL; ComponentLink1URL: http://www.atmel.com/; ComponentLink2Description: SAM3U Series Datasheet; ComponentLink2URL: http://www.atmel.com/dyn/resources/prod_documents/doc6430.pdf; ComponentLink3Description: SAM3U Series Summary; ComponentLink3URL: http://www.atmel.com/dyn/resources/prod_documents/6430s.pdf
footprint 144L1_N (Thin QFP, 144-Leads, Body 20x20mm, Pitch 0.5mm, IPC Medium Density)
footprint 144L1_L (Thin QFP, 144-Leads, Body 20x20mm, Pitch 0.5mm, IPC High Density)
footprint 144L1_M (Thin QFP, 144-Leads, Body 20x20mm, Pitch 0.5mm, IPC Low Density)
part A pins: 5 PB31 (io), 6 PB30 (io), 8 PB29 (io), 10 PB28 (io), 12 PB27 (io), 13 PB26 (io), 14 PB25 (io), 15 PB24 (io), 19 PB23 (io), 20 PB22 (io), 21 PB21 (io), 22 PC21 (io), 23 PB20 (io), 24 PB19 (io), 25 PB18 (io), 26 PB17 (io), 28 PC14 (io), 29 PB14 (io), 30 PB10 (io), 31 PB9 (io), 32 PC19 (io), 45 PA28 (io), 46 PA29 (io), 47 PC22 (io), 48 PA31 (io), 49 PC23 (io), 53 PB0 (io), 54 PC24 (io), 55 PB1 (io), 56 PC25 (io), 57 PB2 (io), 58 PC26 (io), 59 PB11 (io), 61 PB12 (io), 62 PB13 (io), 63 PC27 (io), 64 PA27 (io), 65 PB5 (io), 66 PB6 (io), 67 PB7 (io), 68 PB8 (io), 69 PC28 (io), 70 PC29 (io), 71 PC30 (io), 72 PC31 (io), 77 PA22/PGMD14 (io), 78 PA30 (io), 79 PB3 (io), 80 PB4 (io), 81 PC15 (io), 82 PC16 (io), 83 PC17 (io), 84 PC18 (io), 87 PA13/PGMD5 (io), 88 PA14/PGMD6 (io), 89 PC10 (io), 91 PA15/PGMD7 (io), 92 PC11 (io), 93 PA16/PGMD8 (io), 94 PC12 (io), 95 PA17/PGMD9 (io), 96 PB16 (io), 97 PB15 (io), 98 PC13 (io), 99 PA18/PGMD10 (io), 100 PA19/PGMD11 (io), 101 PA20/PGMD12 (io), 102 PA21/PGMD13 (io), 103 PA23/PGMD15 (io), 105 PA24 (io), 106 PA25 (io), 107 PA26 (io), 108 PC20 (io), 109 PA0/PGMNCMD (io), 110 PC0 (io), 111 PA1/PGMRDY (io), 112 PC1 (io), 113 PA2/PGMNOE (io), 114 PC2 (io), 115 PA3/PGMNVALID (io), 116 PC3 (io), 117 PA4/PGMM0 (io), 118 PC4 (io), 119 PA5/PGMM1 (io), 120 PC5 (io), 121 PA6/PGMM2 (io), 122 PC6 (io), 123 PA7/PGMM3 (io), 124 PC7 (io), 128 PA8/PGMD0 (io), 129 PC8 (io), 130 PA9/PGMD1 (io), 131 PC9 (io), 132 PA10/PGMD2 (io), 133 PA11/PGMD3 (io), 134 PA12/PGMD4 (io)
part B pins: 1 TDI (in), 2 VDDOUT (power), 3 VDDIN (power), 4 TDO/TRACESWO (out), 7 TMS/SWDIO (in), 9 TCK/SWCLK (in), 11 NRST (io), 35 XOUT (out), 36 XIN (in), 37 DHSDP (io), 38 DHSDM (io), 39 VBG, 41 DFSDM (io), 42 DFSDP (io), 74 ADVREF (in), 76 AD12BVREF (in), 135 FWUP (in), 136 SHDN (out), 137 ERASE (in), 138 TST (in), 141 NRSTB (in), 142 JTAGSEL (in), 143 XOUT32 (out), 144 XIN32 (in)
part C pins: 16 VDDCORE (power), 17 VDDIO (power), 18 GND (power), 27 VDDCORE (power), 33 GNDPLL (power), 34 VDDPLL (power), 40 VDDUTMI (power), 43 GNDUTMI (power), 44 VDDCORE (power), 50 VDDCORE (power), 51 VDDIO (power), 52 GND (power), 60 GND (power), 73 VDDANA (power), 75 GNDANA (power), 85 VDDIO (power), 86 VDDCORE (power), 90 GND (power), 104 VDDIO (power), 125 VDDCORE (power), 126 GND (power), 127 VDDIO (power), 139 VDDBU (power), 140 GNDBU (power)

## ATSAM3U2EA-CU
designator U?
AT91 ARM Cortex-M3 32-bit Microcontroller, 128KB Flash, 36KB SRAM, 96 User I/Os, 4USARTs, 144-Pin LFBGA, Industrial Grade (-40°C to 85°C), Pb-Free; DatasheetVersion: revC, Apr-2010; PackageVersion: 2008; PackageReference: LFBGA144; PackageDescription: 144-Ball Low Profile Fine Pitch BGA, 10 x 10 x 1.4 mm Body, 0.8 mm Pitch; Code_JEDEC: MS-026; ComponentLink1Description: Manufacturer URL; ComponentLink1URL: http://www.atmel.com/; ComponentLink2Description: SAM3U Series Datasheet; ComponentLink2URL: http://www.atmel.com/dyn/resources/prod_documents/doc6430.pdf; ComponentLink3Description: SAM3U Series Summary; ComponentLink3URL: http://www.atmel.com/dyn/resources/prod_documents/6430s.pdf
footprint LFBGA144 (BGA, 144-Leads, Body 10x10mm, Pitch 0.8mm)
part A pins: A3 PB9 (io), A4 PB10 (io), A5 PB19 (io), A6 PC21 (io), A7 PB26 (io), A9 PB30 (io), B4 PB14 (io), B5 PB17 (io), B6 PB22 (io), B7 PB25 (io), B8 PB29 (io), C5 PB18 (io), C6 PB20 (io), C7 PB27 (io), D4 PC14 (io), D5 PB21 (io), D6 PB23 (io), D7 PB24 (io), D8 PB28 (io), D11 PA10/PGMD2 (io), D12 PA11/PGMD3 (io), E1 PC22 (io), E2 PA28 (io), E3 PC19 (io), E9 PB31 (io), E10 PA12/PGMD4 (io), E11 PA8/PGMD0 (io), E12 PC8 (io), F1 PA31 (io), F2 PA29 (io), F3 PC23 (io), F9 PC9 (io), F10 PA9/PGMD1 (io), F12 PC7 (io), G1 PB0 (io), G2 PC26 (io), G3 PB2 (io), G4 PC25 (io), G5 PB1 (io), G9 PC4 (io), G10 PA6/PGMM2 (io), G11 PA7/PGMM3 (io), G12 PC6 (io), H1 PC24 (io), H2 PC27 (io), H3 PA27 (io), H4 PB12 (io), H5 PB11 (io), H8 PB16 (io), H9 PB15 (io), H10 PC3 (io), H11 PA5/PGMM1 (io), H12 PC5 (io), J1 PB5 (io), J2 PB6 (io), J3 PC28 (io), J4 PB8 (io), J5 PB13 (io), J7 PA13/PGMD5 (io), J8 PA17/PGMD9 (io), J9 PC13 (io), J10 PA2/PGMNOE (io), J11 PA3/PGMNVALID (io), J12 PA4/PGMM0 (io), K1 PB7 (io), K2 PC31 (io), K3 PC29 (io), K4 PB3 (io), K5 PB4 (io), K6 PA14/PGMD6 (io), K7 PA16/PGMD8 (io), K8 PA18/PGMD10 (io), K9 PC20 (io), K10 PA1/PGMRDY (io), K11 PC1 (io), K12 PC2 (io), L1 PC30 (io), L4 PA22/PGMD14 (io), L5 PC17 (io), L6 PC10 (io), L7 PC12 (io), L8 PA19/PGMD11 (io), L9 PA23/PGMD15 (io), L10 PA0/PGMNCMD (io), L11 PA26 (io), L12 PC0 (io), M3 PA30 (io), M4 PC15 (io), M5 PC16 (io), M6 PC18 (io), M7 PA15/PGMD7 (io), M8 PC11 (io), M9 PA20/PGMD12 (io), M10 PA21/PGMD13 (io), M11 PA24 (io), M12 PA25 (io)
part B pins: A1 VBG, A8 TCK/SWCLK (in), A10 TDO/TRACESWO (out), A11 XIN32 (in), A12 XOUT32 (out), B3 XOUT (out), B9 VDDIN (power), B10 JTAGSEL (in), B11 ERASE (in), B12 SHDN (out), C1 DFSDP (io), C2 DHSDP (io), C3 XIN (in), C8 TMS/SWDIO (in), C9 VDDOUT (power), C10 NRSTB (in), C11 TST (in), C12 FWUP (in), D1 DFSDM (io), D2 DHSDM (io), D9 TDI (in), E8 NRST (io), L2 ADVREF (in), L3 AD12BVREF (in)
part C pins: A2 VDDUTMI (power), B1 VDDCORE (power), B2 GNDUTMI (power), C4 VDDPLL (power), D3 GNDPLL (power), D10 VDDBU (power), E4 VDDCORE (power), E5 GND (power), E6 VDDIO (power), E7 GNDBU (power), F4 VDDCORE (power), F5 VDDIO (power), F6 GND (power), F7 GND (power), F8 VDDIO (power), F11 VDDCORE (power), G6 GND (power), G7 GND (power), G8 VDDCORE (power), H6 GND (power), H7 VDDCORE (power), J6 VDDIO (power), M1 VDDANA (power), M2 GNDANA (power)

## ATSAM3U4CA-AU
designator U?
AT91 ARM Cortex-M3 32-bit Microcontroller, 2x128KB Flash, 52KB SRAM, 57 User I/Os, 3USARTs, 100-Pin LQFP, Industrial Grade (-40°C to 85°C), Pb-Free; DatasheetVersion: revC, Apr-2010; PackageVersion: Apr-2006; PackageReference: LQFP100; PackageDescription: 100-Pin Thin Quad Flat Pack 0.5 mm Pitch; Code_JEDEC: MS-026-BED; ComponentLink1Description: Manufacturer URL; ComponentLink1URL: http://www.atmel.com/; ComponentLink2Description: SAM3U Series Datasheet; ComponentLink2URL: http://www.atmel.com/dyn/resources/prod_documents/doc6430.pdf; ComponentLink3Description: SAM3U Series Summary; ComponentLink3URL: http://www.atmel.com/dyn/resources/prod_documents/6430s.pdf
footprint LQFP100_N (Thin QFP, 100-Leads, Body 14x14mm, Pitch 0.5mm, IPC Medium Density)
footprint LQFP100_L (Thin QFP, 100-Leads, Body 14x14mm, Pitch 0.5mm, IPC High Density)
footprint LQFP100_M (Thin QFP, 100-Leads, Body 14x14mm, Pitch 0.5mm, IPC Low Density)
part A pins: 5 PA22/PGMD14 (io), 6 PA30 (io), 7 PB3 (io), 8 PB4 (io), 10 PA13/PGMD5 (io), 11 PA14/PGMD6 (io), 12 PA15/PGMD7 (io), 13 PA16/PGMD8 (io), 14 PA17/PGMD9 (io), 15 PB16 (io), 16 PB15 (io), 17 PA18/PGMD10 (io), 18 PA19/PGMD11 (io), 19 PA20/PGMD12 (io), 20 PA21/PGMD13 (io), 21 PA23/PGMD15 (io), 23 PA24 (io), 24 PA25 (io), 25 PA26 (io), 26 PA0/PGMNCMD (io), 27 PA1/PGMRDY (io), 28 PA2/PGMNOE (io), 29 PA3/PGMNVALID (io), 30 PA4/PGMM0 (io), 31 PA5/PGMM1 (io), 32 PA6/PGMM2 (io), 33 PA7/PGMM3 (io), 37 PA8/PGMD0 (io), 38 PA9/PGMD1 (io), 39 PA10/PGMD2 (io), 40 PA11/PGMD3 (io), 41 PA12/PGMD4 (io), 58 PB24 (io), 62 PB23 (io), 63 PB22 (io), 64 PB21 (io), 65 PB20 (io), 66 PB19 (io), 67 PB18 (io), 68 PB17 (io), 69 PB14 (io), 70 PB10 (io), 71 PB9 (io), 84 PA28 (io), 85 PA29 (io), 86 PA31 (io), 90 PB0 (io), 91 PB1 (io), 92 PB2 (io), 93 PB11 (io), 94 PB12 (io), 95 PB13 (io), 96 PA27 (io), 97 PB5 (io), 98 PB6 (io), 99 PB7 (io), 100 PB8 (io)
part B pins: 2 ADVREF (in), 4 AD12BVREF (in), 42 FWUP (in), 43 ERASE (in), 44 TST (in), 47 NRSTB (in), 48 JTAGSEL (in), 49 XOUT32 (out), 50 XIN32 (in), 51 TDI (in), 52 VDDOUT (power), 53 VDDIN (power), 54 TDO/TRACESWO (out), 55 TMS/SWDIO (in), 56 TCK/SWCLK (in), 57 NRST (io), 74 XOUT (out), 75 XIN (in), 76 DHSDP (io), 77 DHSDM (io), 78 VBG, 80 DFSDM (io), 81 DFSDP (io)
part C pins: 1 VDDANA (power), 3 GNDANA (power), 9 VDDCORE (power), 22 VDDIO (power), 34 VDDCORE (power), 35 GND (power), 36 VDDIO (power), 45 VDDBU (power), 46 GNDBU (power), 59 VDDCORE (power), 60 VDDIO (power), 61 GND (power), 72 GNDPLL (power), 73 VDDPLL (power), 79 VDDUTMI (power), 82 GNDUTMI (power), 83 VDDCORE (power), 87 VDDCORE (power), 88 VDDIO (power), 89 GND (power)

## ATSAM3U4CA-CU
designator U?
AT91 ARM Cortex-M3 32-bit Microcontroller, 2x128KB Flash, 52KB SRAM, 57 User I/Os, 3USARTs, 100-Pin TFBGA, Industrial Grade (-40°C to 85°C), Pb-Free; DatasheetVersion: revC, Apr-2010; PackageVersion: 2004; PackageReference: TFBGA100; PackageDescription: 100-Ball Thin Fine Ball Grid Array, 9 x 9 x1.1 mm Body, 0.80 mm Pitch; ComponentLink1Description: Manufacturer URL; ComponentLink1URL: http://www.atmel.com/; ComponentLink2Description: SAM3U Series Datasheet; ComponentLink2URL: http://www.atmel.com/dyn/resources/prod_documents/doc6430.pdf; ComponentLink3Description: SAM3U Series Summary; ComponentLink3URL: http://www.atmel.com/dyn/resources/prod_documents/6430s.pdf
footprint TFBGA100 (BGA, 100-Leads, Body 9x9mm, Pitch 0.8mm)
part A pins: A4 PB17 (io), A5 PB21 (io), A6 PB23 (io), B4 PB10 (io), B5 PB18 (io), B6 PB24 (io), C4 PB14 (io), C5 PB19 (io), C6 PB22 (io), D5 PB20 (io), D9 PA11/PGMD3 (io), D10 PA12/PGMD4 (io), E1 PA29 (io), E3 PA28 (io), E4 PB9 (io), E8 PA10/PGMD2 (io), E9 PA9/PGMD1 (io), E10 PA8/PGMD0 (io), F1 PB1 (io), F2 PB12 (io), F4 PA31 (io), F7 PB16 (io), F8 PA6/PGMM2 (io), F10 PA7/PGMM3 (io), G1 PB11 (io), G2 PB2 (io), G3 PB0 (io), G4 PB13 (io), G7 PB15 (io), G8 PA3/PGMNVALID (io), G9 PA5/PGMM1 (io), G10 PA4/PGMM0 (io), H2 PB5 (io), H3 PA27 (io), H4 PA22/PGMD14 (io), H5 PA13/PGMD5 (io), H6 PA15/PGMD7 (io), H7 PA18/PGMD10 (io), H8 PA24 (io), H9 PA1/PGMRDY (io), H10 PA2/PGMNOE (io), J1 PB6 (io), J2 PB8 (io), J4 PA30 (io), J5 PB3 (io), J6 PA16/PGMD8 (io), J7 PA19/PGMD11 (io), J8 PA21/PGMD13 (io), J9 PA26 (io), J10 PA0/PGMNCMD (io), K1 PB7 (io), K5 PB4 (io), K6 PA14/PGMD6 (io), K7 PA17/PGMD9 (io), K8 PA20/PGMD12 (io), K9 PA23/PGMD15 (io), K10 PA25 (io)
part B pins: A1 VBG, A2 XIN (in), A3 XOUT (out), A7 TCK/SWCLK (in), A8 VDDIN (power), A9 VDDOUT (power), A10 XIN32 (in), B7 NRST (io), B8 TDO/TRACESWO (out), B9 TDI (in), B10 XOUT32 (out), C1 DFSDP (io), C2 DHSDP (io), C7 TMS/SWDIO (in), C8 NRSTB (in), C9 JTAGSEL (in), D1 DFSDM (io), D2 DHSDM (io), D6 ERASE (in), D7 TST (in), D8 FWUP (in), J3 ADVREF (in), K4 AD12BVREF (in)
part C pins: B1 VDDCORE (power), B2 GNDUTMI (power), B3 VDDUTMI (power), C3 GNDPLL (power), C10 VDDBU (power), D3 VDDPLL (power), D4 VDDCORE (power), E2 GND (power), E5 GNDBU (power), E6 VDDIO (power), E7 VDDCORE (power), F3 VDDIO (power), F5 VDDIO (power), F6 GND (power), F9 VDDCORE (power), G5 VDDCORE (power), G6 GND (power), H1 VDDCORE (power), K2 VDDANA (power), K3 GNDANA (power)

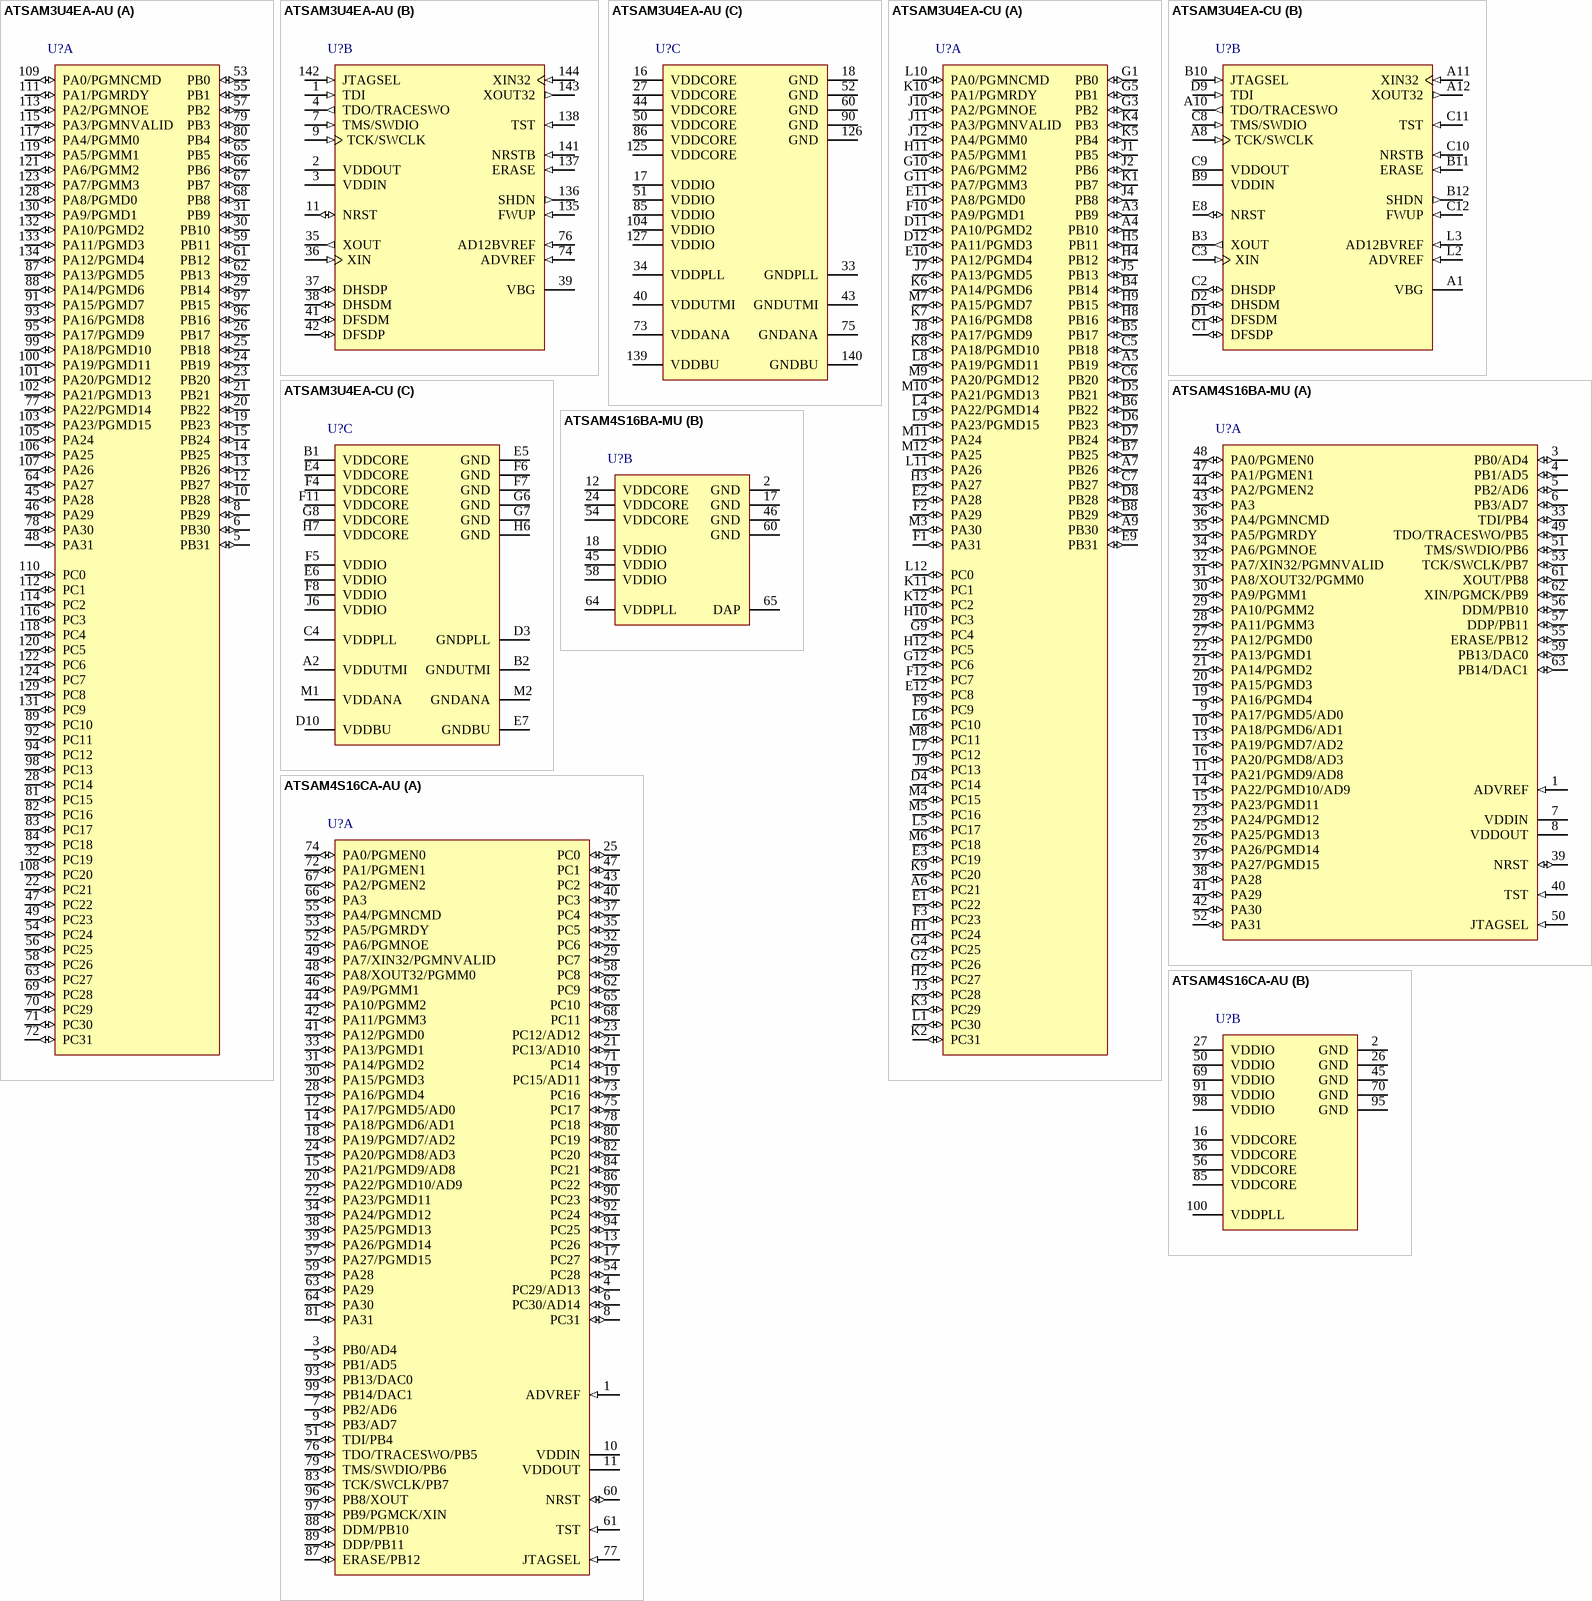
[diagram p61: symbols ATSAM3U4EA-AU to ATSAM4S16CA-AU]

## ATSAM3U4EA-AU
designator U?
AT91 ARM Cortex-M3 32-bit Microcontroller, 2x128KB Flash, 52KB SRAM, 96 User I/Os, 4USARTs, 144-Pin LQFP, Industrial Grade (-40°C to 85°C), Pb-Free; DatasheetVersion: revE, Aug-2011; PackageVersion: rev.A, Nov-2001; PackageReference: 144L1; PackageDescription: 144-Pin Thin Quad Flat Pack 0.5 mm Pitch; Code_JEDEC: MS-026-BFB; ComponentLink1Description: Manufacturer URL; ComponentLink1URL: http://www.atmel.com/; ComponentLink2Description: SAM3U Series Datasheet; ComponentLink2URL: http://www.atmel.com/dyn/resources/prod_documents/doc6430.pdf; ComponentLink3Description: SAM3U Series Summary; ComponentLink3URL: http://www.atmel.com/dyn/resources/prod_documents/6430s.pdf
footprint 144L1_N (Thin QFP, 144-Leads, Body 20x20mm, Pitch 0.5mm, IPC Medium Density)
footprint 144L1_L (Thin QFP, 144-Leads, Body 20x20mm, Pitch 0.5mm, IPC High Density)
footprint 144L1_M (Thin QFP, 144-Leads, Body 20x20mm, Pitch 0.5mm, IPC Low Density)
part A pins: 5 PB31 (io), 6 PB30 (io), 8 PB29 (io), 10 PB28 (io), 12 PB27 (io), 13 PB26 (io), 14 PB25 (io), 15 PB24 (io), 19 PB23 (io), 20 PB22 (io), 21 PB21 (io), 22 PC21 (io), 23 PB20 (io), 24 PB19 (io), 25 PB18 (io), 26 PB17 (io), 28 PC14 (io), 29 PB14 (io), 30 PB10 (io), 31 PB9 (io), 32 PC19 (io), 45 PA28 (io), 46 PA29 (io), 47 PC22 (io), 48 PA31 (io), 49 PC23 (io), 53 PB0 (io), 54 PC24 (io), 55 PB1 (io), 56 PC25 (io), 57 PB2 (io), 58 PC26 (io), 59 PB11 (io), 61 PB12 (io), 62 PB13 (io), 63 PC27 (io), 64 PA27 (io), 65 PB5 (io), 66 PB6 (io), 67 PB7 (io), 68 PB8 (io), 69 PC28 (io), 70 PC29 (io), 71 PC30 (io), 72 PC31 (io), 77 PA22/PGMD14 (io), 78 PA30 (io), 79 PB3 (io), 80 PB4 (io), 81 PC15 (io), 82 PC16 (io), 83 PC17 (io), 84 PC18 (io), 87 PA13/PGMD5 (io), 88 PA14/PGMD6 (io), 89 PC10 (io), 91 PA15/PGMD7 (io), 92 PC11 (io), 93 PA16/PGMD8 (io), 94 PC12 (io), 95 PA17/PGMD9 (io), 96 PB16 (io), 97 PB15 (io), 98 PC13 (io), 99 PA18/PGMD10 (io), 100 PA19/PGMD11 (io), 101 PA20/PGMD12 (io), 102 PA21/PGMD13 (io), 103 PA23/PGMD15 (io), 105 PA24 (io), 106 PA25 (io), 107 PA26 (io), 108 PC20 (io), 109 PA0/PGMNCMD (io), 110 PC0 (io), 111 PA1/PGMRDY (io), 112 PC1 (io), 113 PA2/PGMNOE (io), 114 PC2 (io), 115 PA3/PGMNVALID (io), 116 PC3 (io), 117 PA4/PGMM0 (io), 118 PC4 (io), 119 PA5/PGMM1 (io), 120 PC5 (io), 121 PA6/PGMM2 (io), 122 PC6 (io), 123 PA7/PGMM3 (io), 124 PC7 (io), 128 PA8/PGMD0 (io), 129 PC8 (io), 130 PA9/PGMD1 (io), 131 PC9 (io), 132 PA10/PGMD2 (io), 133 PA11/PGMD3 (io), 134 PA12/PGMD4 (io)
part B pins: 1 TDI (in), 2 VDDOUT (power), 3 VDDIN (power), 4 TDO/TRACESWO (out), 7 TMS/SWDIO (in), 9 TCK/SWCLK (in), 11 NRST (io), 35 XOUT (out), 36 XIN (in), 37 DHSDP (io), 38 DHSDM (io), 39 VBG, 41 DFSDM (io), 42 DFSDP (io), 74 ADVREF (in), 76 AD12BVREF (in), 135 FWUP (in), 136 SHDN (out), 137 ERASE (in), 138 TST (in), 141 NRSTB (in), 142 JTAGSEL (in), 143 XOUT32 (out), 144 XIN32 (in)
part C pins: 16 VDDCORE (power), 17 VDDIO (power), 18 GND (power), 27 VDDCORE (power), 33 GNDPLL (power), 34 VDDPLL (power), 40 VDDUTMI (power), 43 GNDUTMI (power), 44 VDDCORE (power), 50 VDDCORE (power), 51 VDDIO (power), 52 GND (power), 60 GND (power), 73 VDDANA (power), 75 GNDANA (power), 85 VDDIO (power), 86 VDDCORE (power), 90 GND (power), 104 VDDIO (power), 125 VDDCORE (power), 126 GND (power), 127 VDDIO (power), 139 VDDBU (power), 140 GNDBU (power)

## ATSAM3U4EA-CU
designator U?
AT91 ARM Cortex-M3 32-bit Microcontroller, 2x128KB Flash, 52KB SRAM, 96 User I/Os, 4USARTs, 144-Pin LFBGA, Industrial Grade (-40°C to 85°C), Pb-Free; DatasheetVersion: revC, Apr-2010; PackageVersion: 2008; PackageReference: LFBGA144; PackageDescription: 144-Ball Low Profile Fine Pitch BGA, 10 x 10 x 1.4 mm Body, 0.8 mm Pitch; Code_JEDEC: MS-026; ComponentLink1Description: Manufacturer URL; ComponentLink1URL: http://www.atmel.com/; ComponentLink2Description: SAM3U Series Datasheet; ComponentLink2URL: http://www.atmel.com/dyn/resources/prod_documents/doc6430.pdf; ComponentLink3Description: SAM3U Series Summary; ComponentLink3URL: http://www.atmel.com/dyn/resources/prod_documents/6430s.pdf
footprint LFBGA144 (BGA, 144-Leads, Body 10x10mm, Pitch 0.8mm)
part A pins: A3 PB9 (io), A4 PB10 (io), A5 PB19 (io), A6 PC21 (io), A7 PB26 (io), A9 PB30 (io), B4 PB14 (io), B5 PB17 (io), B6 PB22 (io), B7 PB25 (io), B8 PB29 (io), C5 PB18 (io), C6 PB20 (io), C7 PB27 (io), D4 PC14 (io), D5 PB21 (io), D6 PB23 (io), D7 PB24 (io), D8 PB28 (io), D11 PA10/PGMD2 (io), D12 PA11/PGMD3 (io), E1 PC22 (io), E2 PA28 (io), E3 PC19 (io), E9 PB31 (io), E10 PA12/PGMD4 (io), E11 PA8/PGMD0 (io), E12 PC8 (io), F1 PA31 (io), F2 PA29 (io), F3 PC23 (io), F9 PC9 (io), F10 PA9/PGMD1 (io), F12 PC7 (io), G1 PB0 (io), G2 PC26 (io), G3 PB2 (io), G4 PC25 (io), G5 PB1 (io), G9 PC4 (io), G10 PA6/PGMM2 (io), G11 PA7/PGMM3 (io), G12 PC6 (io), H1 PC24 (io), H2 PC27 (io), H3 PA27 (io), H4 PB12 (io), H5 PB11 (io), H8 PB16 (io), H9 PB15 (io), H10 PC3 (io), H11 PA5/PGMM1 (io), H12 PC5 (io), J1 PB5 (io), J2 PB6 (io), J3 PC28 (io), J4 PB8 (io), J5 PB13 (io), J7 PA13/PGMD5 (io), J8 PA17/PGMD9 (io), J9 PC13 (io), J10 PA2/PGMNOE (io), J11 PA3/PGMNVALID (io), J12 PA4/PGMM0 (io), K1 PB7 (io), K2 PC31 (io), K3 PC29 (io), K4 PB3 (io), K5 PB4 (io), K6 PA14/PGMD6 (io), K7 PA16/PGMD8 (io), K8 PA18/PGMD10 (io), K9 PC20 (io), K10 PA1/PGMRDY (io), K11 PC1 (io), K12 PC2 (io), L1 PC30 (io), L4 PA22/PGMD14 (io), L5 PC17 (io), L6 PC10 (io), L7 PC12 (io), L8 PA19/PGMD11 (io), L9 PA23/PGMD15 (io), L10 PA0/PGMNCMD (io), L11 PA26 (io), L12 PC0 (io), M3 PA30 (io), M4 PC15 (io), M5 PC16 (io), M6 PC18 (io), M7 PA15/PGMD7 (io), M8 PC11 (io), M9 PA20/PGMD12 (io), M10 PA21/PGMD13 (io), M11 PA24 (io), M12 PA25 (io)
part B pins: A1 VBG, A8 TCK/SWCLK (in), A10 TDO/TRACESWO (out), A11 XIN32 (in), A12 XOUT32 (out), B3 XOUT (out), B9 VDDIN (power), B10 JTAGSEL (in), B11 ERASE (in), B12 SHDN (out), C1 DFSDP (io), C2 DHSDP (io), C3 XIN (in), C8 TMS/SWDIO (in), C9 VDDOUT (power), C10 NRSTB (in), C11 TST (in), C12 FWUP (in), D1 DFSDM (io), D2 DHSDM (io), D9 TDI (in), E8 NRST (io), L2 ADVREF (in), L3 AD12BVREF (in)
part C pins: A2 VDDUTMI (power), B1 VDDCORE (power), B2 GNDUTMI (power), C4 VDDPLL (power), D3 GNDPLL (power), D10 VDDBU (power), E4 VDDCORE (power), E5 GND (power), E6 VDDIO (power), E7 GNDBU (power), F4 VDDCORE (power), F5 VDDIO (power), F6 GND (power), F7 GND (power), F8 VDDIO (power), F11 VDDCORE (power), G6 GND (power), G7 GND (power), G8 VDDCORE (power), H6 GND (power), H7 VDDCORE (power), J6 VDDIO (power), M1 VDDANA (power), M2 GNDANA (power)

## ATSAM4S16BA-MU
designator U?
AT91 ARM Cortex-M4 32-bit Microcontroller, 1MB Flash, 128KB SRAM, USB, 79 User I/Os, 64-Pin QFN, Industrial Grade (-40°C to 105°C), Pb-Free; DatasheetVersion: revA, Oct-2011; PackageVersion: revJ, Jul-2007; PackageReference: 64PS; PackageDescription: 64-Pin Quad Flat No-Lead (QFN) Sawn, 9 x 9 x 1.0 mm Body, 0.5 mm Pitch, Exposed Pad; Code_JEDEC: MO-220VMMD-3; ComponentLink1Description: Manufacturer URL; ComponentLink1URL: http://www.atmel.com/; ComponentLink2Description: SAM4S Series Datasheet; ComponentLink2URL: http://www.atmel.com/dyn/resources/prod_documents/11100.pdf; ComponentLink3Description: SAM4S Series Summary; ComponentLink3URL: http://www.atmel.com/dyn/resources/prod_documents/11100S.pdf
footprint 64PS_N (QFN, 64-Leads, Body 9x9mm, Pitch 0.5mm, Thermal Pad 7.5x7.5mm, IPC Medium Density)
footprint 64PS_L (QFN, 64-Leads, Body 9x9mm, Pitch 0.5mm, Thermal Pad 7.5x7.5mm, IPC High Density)
footprint 64PS_M (QFN, 64-Leads, Body 9x9mm, Pitch 0.5mm, Thermal Pad 7.5x7.5mm, IPC Low Density)
part A pins: 1 ADVREF (in), 3 PB0/AD4 (io), 4 PB1/AD5 (io), 5 PB2/AD6 (io), 6 PB3/AD7 (io), 7 VDDIN (power), 8 VDDOUT (power), 9 PA17/PGMD5/AD0 (io), 10 PA18/PGMD6/AD1 (io), 11 PA21/PGMD9/AD8 (io), 13 PA19/PGMD7/AD2 (io), 14 PA22/PGMD10/AD9 (io), 15 PA23/PGMD11 (io), 16 PA20/PGMD8/AD3 (io), 19 PA16/PGMD4 (io), 20 PA15/PGMD3 (io), 21 PA14/PGMD2 (io), 22 PA13/PGMD1 (io), 23 PA24/PGMD12 (io), 25 PA25/PGMD13 (io), 26 PA26/PGMD14 (io), 27 PA12/PGMD0 (io), 28 PA11/PGMM3 (io), 29 PA10/PGMM2 (io), 30 PA9/PGMM1 (io), 31 PA8/XOUT32/PGMM0 (io), 32 PA7/XIN32/PGMNVALID (io), 33 TDI/PB4 (io), 34 PA6/PGMNOE (io), 35 PA5/PGMRDY (io), 36 PA4/PGMNCMD (io), 37 PA27/PGMD15 (io), 38 PA28 (io), 39 NRST (io), 40 TST (in), 41 PA29 (io), 42 PA30 (io), 43 PA3 (io), 44 PA2/PGMEN2 (io), 47 PA1/PGMEN1 (io), 48 PA0/PGMEN0 (io), 49 TDO/TRACESWO/PB5 (io), 50 JTAGSEL (in), 51 TMS/SWDIO/PB6 (io), 52 PA31 (io), 53 TCK/SWCLK/PB7 (io), 55 ERASE/PB12 (io), 56 DDM/PB10 (io), 57 DDP/PB11 (io), 59 PB13/DAC0 (io), 61 XOUT/PB8 (io), 62 XIN/PGMCK/PB9 (io), 63 PB14/DAC1 (io)
part B pins: 2 GND (power), 12 VDDCORE (power), 17 GND (power), 18 VDDIO (power), 24 VDDCORE (power), 45 VDDIO (power), 46 GND (power), 54 VDDCORE (power), 58 VDDIO (power), 60 GND (power), 64 VDDPLL (power), 65 DAP (power)

## ATSAM4S16CA-AU
designator U?
AT91 ARM Cortex-M4 32-bit Microcontroller, 1MB Flash, 128KB SRAM, USB, 79 User I/Os, 100-Pin LQFP, Industrial Grade (-40°C to 105°C), Pb-Free; DatasheetVersion: revA, Oct-2011; PackageVersion: Apr-2006; PackageReference: LQFP100; PackageDescription: 100-Pin Thin Quad Flat Pack 0.5 mm Pitch; Code_JEDEC: MS-026-BED; ComponentLink1Description: Manufacturer URL; ComponentLink1URL: http://www.atmel.com/; ComponentLink2Description: SAM4S Series Datasheet; ComponentLink2URL: http://www.atmel.com/dyn/resources/prod_documents/11100.pdf; ComponentLink3Description: SAM4S Series Summary; ComponentLink3URL: http://www.atmel.com/dyn/resources/prod_documents/11100S.pdf
footprint LQFP100_N (Thin QFP, 100-Leads, Body 14x14mm, Pitch 0.5mm, IPC Medium Density)
footprint LQFP100_L (Thin QFP, 100-Leads, Body 14x14mm, Pitch 0.5mm, IPC High Density)
footprint LQFP100_M (Thin QFP, 100-Leads, Body 14x14mm, Pitch 0.5mm, IPC Low Density)
part A pins: 1 ADVREF (in), 3 PB0/AD4 (io), 4 PC29/AD13 (io), 5 PB1/AD5 (io), 6 PC30/AD14 (io), 7 PB2/AD6 (io), 8 PC31 (io), 9 PB3/AD7 (io), 10 VDDIN (power), 11 VDDOUT (power), 12 PA17/PGMD5/AD0 (io), 13 PC26 (io), 14 PA18/PGMD6/AD1 (io), 15 PA21/PGMD9/AD8 (io), 17 PC27 (io), 18 PA19/PGMD7/AD2 (io), 19 PC15/AD11 (io), 20 PA22/PGMD10/AD9 (io), 21 PC13/AD10 (io), 22 PA23/PGMD11 (io), 23 PC12/AD12 (io), 24 PA20/PGMD8/AD3 (io), 25 PC0 (io), 28 PA16/PGMD4 (io), 29 PC7 (io), 30 PA15/PGMD3 (io), 31 PA14/PGMD2 (io), 32 PC6 (io), 33 PA13/PGMD1 (io), 34 PA24/PGMD12 (io), 35 PC5 (io), 37 PC4 (io), 38 PA25/PGMD13 (io), 39 PA26/PGMD14 (io), 40 PC3 (io), 41 PA12/PGMD0 (io), 42 PA11/PGMM3 (io), 43 PC2 (io), 44 PA10/PGMM2 (io), 46 PA9/PGMM1 (io), 47 PC1 (io), 48 PA8/XOUT32/PGMM0 (io), 49 PA7/XIN32/PGMNVALID (io), 51 TDI/PB4 (io), 52 PA6/PGMNOE (io), 53 PA5/PGMRDY (io), 54 PC28 (io), 55 PA4/PGMNCMD (io), 57 PA27/PGMD15 (io), 58 PC8 (io), 59 PA28 (io), 60 NRST (io), 61 TST (in), 62 PC9 (io), 63 PA29 (io), 64 PA30 (io), 65 PC10 (io), 66 PA3 (io), 67 PA2/PGMEN2 (io), 68 PC11 (io), 71 PC14 (io), 72 PA1/PGMEN1 (io), 73 PC16 (io), 74 PA0/PGMEN0 (io), 75 PC17 (io), 76 TDO/TRACESWO/PB5 (io), 77 JTAGSEL (in), 78 PC18 (io), 79 TMS/SWDIO/PB6 (io), 80 PC19 (io), 81 PA31 (io), 82 PC20 (io), 83 TCK/SWCLK/PB7 (io), 84 PC21 (io), 86 PC22 (io), 87 ERASE/PB12 (io), 88 DDM/PB10 (io), 89 DDP/PB11 (io), 90 PC23 (io), 92 PC24 (io), 93 PB13/DAC0 (io), 94 PC25 (io), 96 PB8/XOUT (io), 97 PB9/PGMCK/XIN (io), 99 PB14/DAC1 (io)
part B pins: 2 GND (power), 16 VDDCORE (power), 26 GND (power), 27 VDDIO (power), 36 VDDCORE (power), 45 GND (power), 50 VDDIO (power), 56 VDDCORE (power), 69 VDDIO (power), 70 GND (power), 85 VDDCORE (power), 91 VDDIO (power), 95 GND (power), 98 VDDIO (power), 100 VDDPLL (power)